# Altium integrated library Altera MAX II.IntLib: 229 symbols (part 11 of 19)
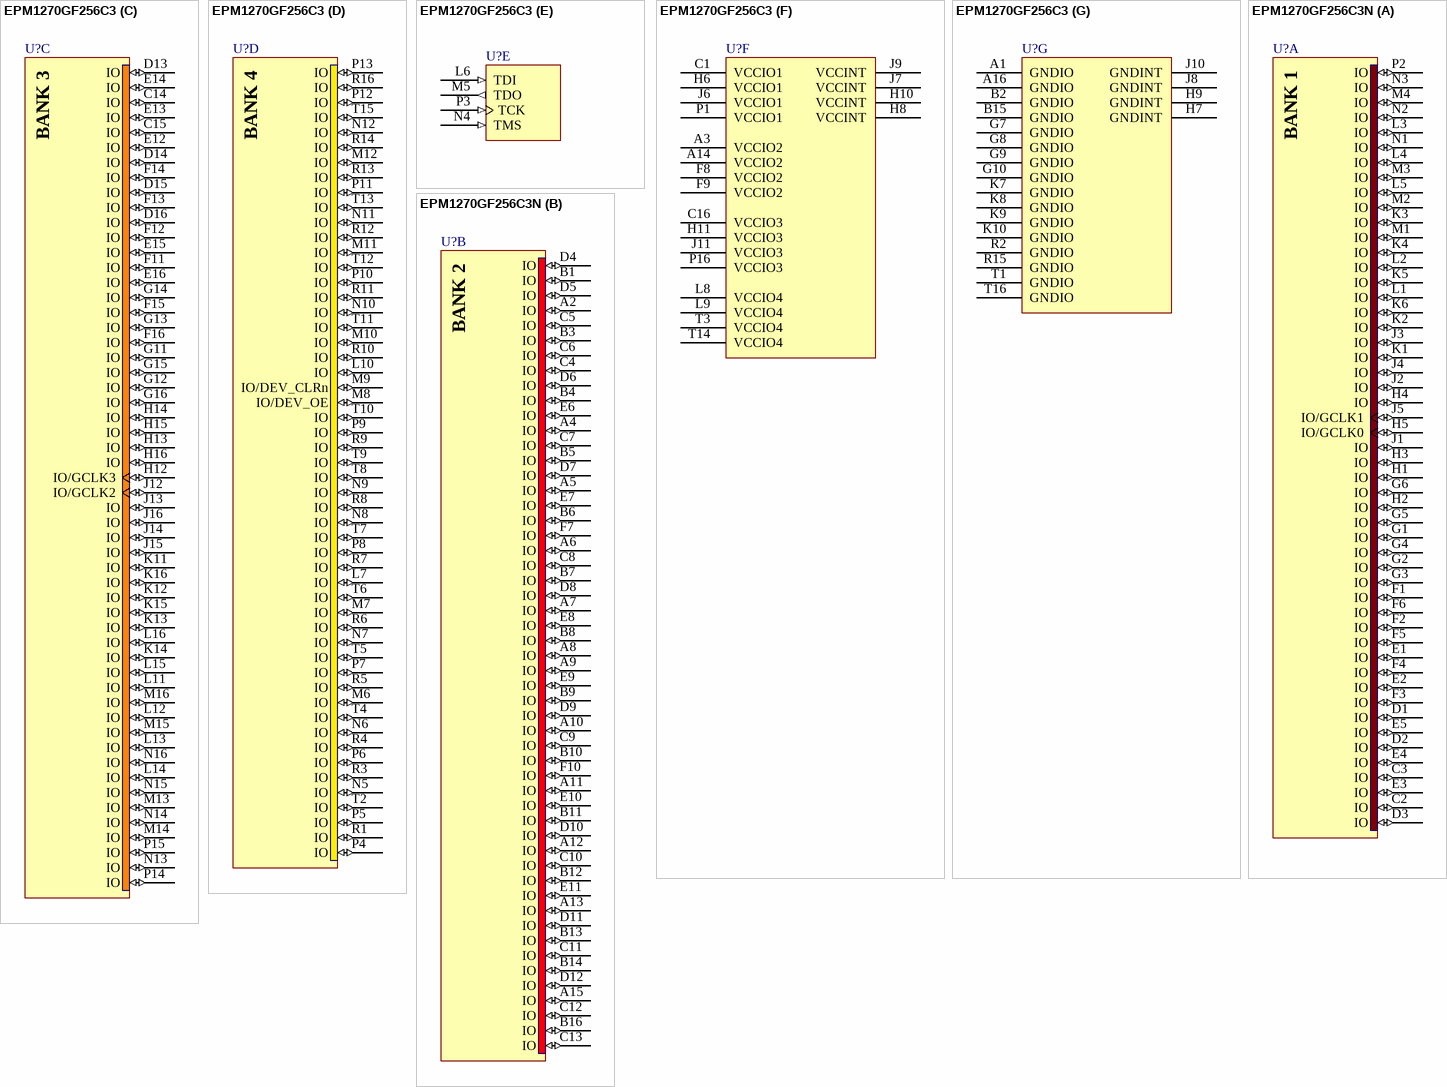
[diagram p169: symbols EPM1270GF256C3 to EPM1270GF256C3N]

## EPM1270GF256C3
designator U?
MAX II 1.8V CPLD, 212 IOs, 1,270 Logic Elements, 256-Pin FineLine BGA, Commercial Temperature, Speed Grade 3; Note: Each set of VCCIO pins can be connected to 3.3V, 2.5V, 1.8V, or 1.5V.; Note: All VCCINT pins must be connected to 1.8V.; Published: 15-Jul-2004; LatestRevisionDate: 13-Apr-2006; LatestRevisionNote: IPC-7351 Footprint Added.; DatasheetVersion: ver1.8, Jul-2006; PackageVersion: ver16.0, Dec-2009; PackageReference: FBGA256; Publisher: Altium Limited; PackageDescription: 256-Ball FineLine Ball Grid Array (FBGA256) - Option 1 - Wire Bond; Supplier 1: Digi-Key; Supplier Part Number 1: 544-1327-ND; Code_JEDEC: MS-034-AAF-1; Code_IPC: BGA100P16X16-256; ComponentLink1Description: Manufacturer Link; ComponentLink1URL: http://www.altera.com/products/devices/cpld/max2/mx2-index.jsp; ComponentLink2Description: Handbook; ComponentLink2URL: http://www.altera.com/literature/hb/max2/max2_mii5v1.pdf; ComponentLink3Description: Packaging Specification; ComponentLink3URL: http://www.altera.com/literature/ds/dspkg.pdf
footprint FBGA256 (BGA, 256-Leads, Body 17x17mm, Pitch 1mm)
3D model EPM1270-FBGA256 (256-Ball FineLine Ball Grid Array (FBGA256) - Option 1 - Wire Bond)
part A pins: C2 IO (io), C3 IO (io), D1 IO (io), D2 IO (io), D3 IO (io), E1 IO (io), E2 IO (io), E3 IO (io), E4 IO (io), E5 IO (io), F1 IO (io), F2 IO (io), F3 IO (io), F4 IO (io), F5 IO (io), F6 IO (io), G1 IO (io), G2 IO (io), G3 IO (io), G4 IO (io), G5 IO (io), G6 IO (io), H1 IO (io), H2 IO (io), H3 IO (io), H4 IO (io), H5 IO/GCLK0 (io), J1 IO (io), J2 IO (io), J3 IO (io), J4 IO (io), J5 IO/GCLK1 (io), K1 IO (io), K2 IO (io), K3 IO (io), K4 IO (io), K5 IO (io), K6 IO (io), L1 IO (io), L2 IO (io), L3 IO (io), L4 IO (io), L5 IO (io), M1 IO (io), M2 IO (io), M3 IO (io), M4 IO (io), N1 IO (io), N2 IO (io), N3 IO (io), P2 IO (io)
part B pins: A2 IO (io), A4 IO (io), A5 IO (io), A6 IO (io), A7 IO (io), A8 IO (io), A9 IO (io), A10 IO (io), A11 IO (io), A12 IO (io), A13 IO (io), A15 IO (io), B1 IO (io), B3 IO (io), B4 IO (io), B5 IO (io), B6 IO (io), B7 IO (io), B8 IO (io), B9 IO (io), B10 IO (io), B11 IO (io), B12 IO (io), B13 IO (io), B14 IO (io), B16 IO (io), C4 IO (io), C5 IO (io), C6 IO (io), C7 IO (io), C8 IO (io), C9 IO (io), C10 IO (io), C11 IO (io), C12 IO (io), C13 IO (io), D4 IO (io), D5 IO (io), D6 IO (io), D7 IO (io), D8 IO (io), D9 IO (io), D10 IO (io), D11 IO (io), D12 IO (io), E6 IO (io), E7 IO (io), E8 IO (io), E9 IO (io), E10 IO (io), E11 IO (io), F7 IO (io), F10 IO (io)
part C pins: C14 IO (io), C15 IO (io), D13 IO (io), D14 IO (io), D15 IO (io), D16 IO (io), E12 IO (io), E13 IO (io), E14 IO (io), E15 IO (io), E16 IO (io), F11 IO (io), F12 IO (io), F13 IO (io), F14 IO (io), F15 IO (io), F16 IO (io), G11 IO (io), G12 IO (io), G13 IO (io), G14 IO (io), G15 IO (io), G16 IO (io), H12 IO/GCLK3 (io), H13 IO (io), H14 IO (io), H15 IO (io), H16 IO (io), J12 IO/GCLK2 (io), J13 IO (io), J14 IO (io), J15 IO (io), J16 IO (io), K11 IO (io), K12 IO (io), K13 IO (io), K14 IO (io), K15 IO (io), K16 IO (io), L11 IO (io), L12 IO (io), L13 IO (io), L14 IO (io), L15 IO (io), L16 IO (io), M13 IO (io), M14 IO (io), M15 IO (io), M16 IO (io), N13 IO (io), N14 IO (io), N15 IO (io), N16 IO (io), P14 IO (io), P15 IO (io)
part D pins: L7 IO (io), L10 IO (io), M6 IO (io), M7 IO (io), M8 IO/DEV_OE (io), M9 IO/DEV_CLRn (io), M10 IO (io), M11 IO (io), M12 IO (io), N5 IO (io), N6 IO (io), N7 IO (io), N8 IO (io), N9 IO (io), N10 IO (io), N11 IO (io), N12 IO (io), P4 IO (io), P5 IO (io), P6 IO (io), P7 IO (io), P8 IO (io), P9 IO (io), P10 IO (io), P11 IO (io), P12 IO (io), P13 IO (io), R1 IO (io), R3 IO (io), R4 IO (io), R5 IO (io), R6 IO (io), R7 IO (io), R8 IO (io), R9 IO (io), R10 IO (io), R11 IO (io), R12 IO (io), R13 IO (io), R14 IO (io), R16 IO (io), T2 IO (io), T4 IO (io), T5 IO (io), T6 IO (io), T7 IO (io), T8 IO (io), T9 IO (io), T10 IO (io), T11 IO (io), T12 IO (io), T13 IO (io), T15 IO (io)
part E pins: L6 TDI (in), M5 TDO (out), N4 TMS (in), P3 TCK (in)
part F pins: A3 VCCIO2 (power), A14 VCCIO2 (power), C1 VCCIO1 (power), C16 VCCIO3 (power), F8 VCCIO2 (power), F9 VCCIO2 (power), H6 VCCIO1 (power), H8 VCCINT (power), H10 VCCINT (power), H11 VCCIO3 (power), J6 VCCIO1 (power), J7 VCCINT (power), J9 VCCINT (power), J11 VCCIO3 (power), L8 VCCIO4 (power), L9 VCCIO4 (power), P1 VCCIO1 (power), P16 VCCIO3 (power), T3 VCCIO4 (power), T14 VCCIO4 (power)
part G pins: A1 GNDIO (power), A16 GNDIO (power), B2 GNDIO (power), B15 GNDIO (power), G7 GNDIO (power), G8 GNDIO (power), G9 GNDIO (power), G10 GNDIO (power), H7 GNDINT (power), H9 GNDINT (power), J8 GNDINT (power), J10 GNDINT (power), K7 GNDIO (power), K8 GNDIO (power), K9 GNDIO (power), K10 GNDIO (power), R2 GNDIO (power), R15 GNDIO (power), T1 GNDIO (power), T16 GNDIO (power)
part A text: BANK 1
part B text: BANK 2
part C text: BANK 3
part D text: BANK 4

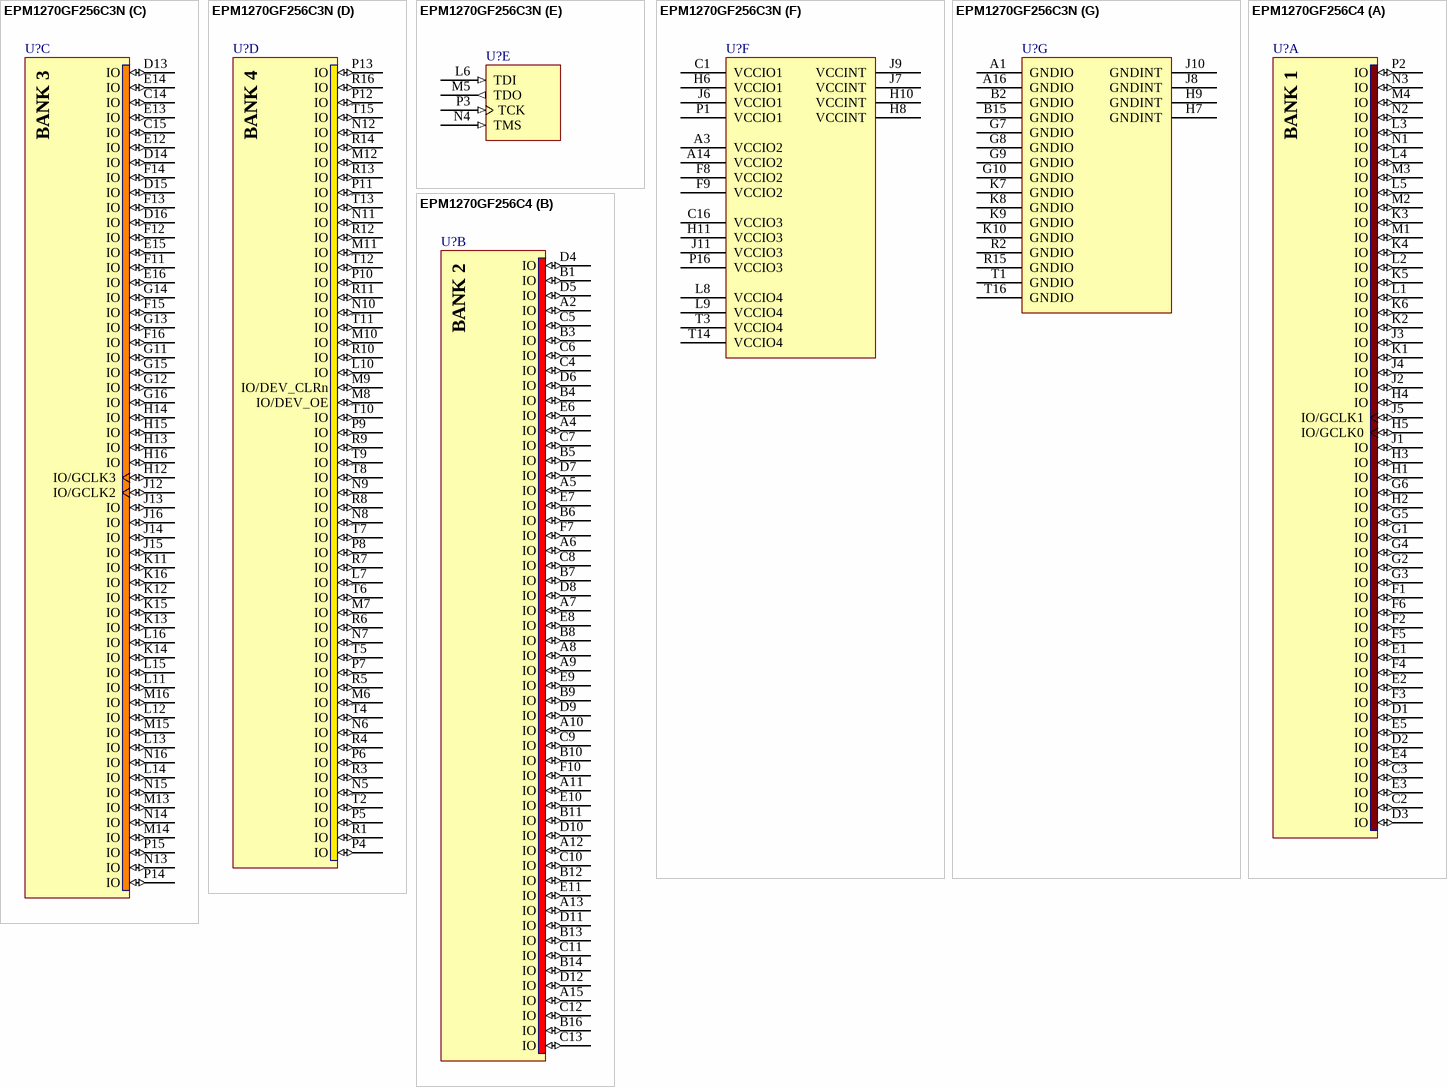
[diagram p83: symbols EPM1270GF256C3N to EPM1270GF256C4]

## EPM1270GF256C3N
designator U?
MAX II 1.8V CPLD, 212 IOs, 1,270 Logic Elements, 256-Pin FineLine BGA, Commercial Temperature, Speed Grade 3, Pb-Free; Note: Each set of VCCIO pins can be connected to 3.3V, 2.5V, 1.8V, or 1.5V.; Note: All VCCINT pins must be connected to 1.8V.; Published: 4-Mar-2005; LatestRevisionDate: 13-Apr-2006; LatestRevisionNote: IPC-7351 Footprint Added.; DatasheetVersion: ver1.8, Jul-2006; PackageVersion: ver16.0, Dec-2009; PackageReference: FBGA256; Publisher: Altium Limited; PackageDescription: 256-Ball FineLine Ball Grid Array (FBGA256) - Option 1 - Wire Bond; Supplier 1: Digi-Key; Supplier Part Number 1: 544-1382-ND; Code_JEDEC: MS-034-AAF-1; Code_IPC: BGA100P16X16-256; ComponentLink1Description: Manufacturer Link; ComponentLink1URL: http://www.altera.com/products/devices/cpld/max2/mx2-index.jsp; ComponentLink2Description: Handbook; ComponentLink2URL: http://www.altera.com/literature/hb/max2/max2_mii5v1.pdf; ComponentLink3Description: Packaging Specification; ComponentLink3URL: http://www.altera.com/literature/ds/dspkg.pdf
footprint FBGA256 (BGA, 256-Leads, Body 17x17mm, Pitch 1mm)
3D model EPM1270-FBGA256 (256-Ball FineLine Ball Grid Array (FBGA256) - Option 1 - Wire Bond)
part A pins: C2 IO (io), C3 IO (io), D1 IO (io), D2 IO (io), D3 IO (io), E1 IO (io), E2 IO (io), E3 IO (io), E4 IO (io), E5 IO (io), F1 IO (io), F2 IO (io), F3 IO (io), F4 IO (io), F5 IO (io), F6 IO (io), G1 IO (io), G2 IO (io), G3 IO (io), G4 IO (io), G5 IO (io), G6 IO (io), H1 IO (io), H2 IO (io), H3 IO (io), H4 IO (io), H5 IO/GCLK0 (io), J1 IO (io), J2 IO (io), J3 IO (io), J4 IO (io), J5 IO/GCLK1 (io), K1 IO (io), K2 IO (io), K3 IO (io), K4 IO (io), K5 IO (io), K6 IO (io), L1 IO (io), L2 IO (io), L3 IO (io), L4 IO (io), L5 IO (io), M1 IO (io), M2 IO (io), M3 IO (io), M4 IO (io), N1 IO (io), N2 IO (io), N3 IO (io), P2 IO (io)
part B pins: A2 IO (io), A4 IO (io), A5 IO (io), A6 IO (io), A7 IO (io), A8 IO (io), A9 IO (io), A10 IO (io), A11 IO (io), A12 IO (io), A13 IO (io), A15 IO (io), B1 IO (io), B3 IO (io), B4 IO (io), B5 IO (io), B6 IO (io), B7 IO (io), B8 IO (io), B9 IO (io), B10 IO (io), B11 IO (io), B12 IO (io), B13 IO (io), B14 IO (io), B16 IO (io), C4 IO (io), C5 IO (io), C6 IO (io), C7 IO (io), C8 IO (io), C9 IO (io), C10 IO (io), C11 IO (io), C12 IO (io), C13 IO (io), D4 IO (io), D5 IO (io), D6 IO (io), D7 IO (io), D8 IO (io), D9 IO (io), D10 IO (io), D11 IO (io), D12 IO (io), E6 IO (io), E7 IO (io), E8 IO (io), E9 IO (io), E10 IO (io), E11 IO (io), F7 IO (io), F10 IO (io)
part C pins: C14 IO (io), C15 IO (io), D13 IO (io), D14 IO (io), D15 IO (io), D16 IO (io), E12 IO (io), E13 IO (io), E14 IO (io), E15 IO (io), E16 IO (io), F11 IO (io), F12 IO (io), F13 IO (io), F14 IO (io), F15 IO (io), F16 IO (io), G11 IO (io), G12 IO (io), G13 IO (io), G14 IO (io), G15 IO (io), G16 IO (io), H12 IO/GCLK3 (io), H13 IO (io), H14 IO (io), H15 IO (io), H16 IO (io), J12 IO/GCLK2 (io), J13 IO (io), J14 IO (io), J15 IO (io), J16 IO (io), K11 IO (io), K12 IO (io), K13 IO (io), K14 IO (io), K15 IO (io), K16 IO (io), L11 IO (io), L12 IO (io), L13 IO (io), L14 IO (io), L15 IO (io), L16 IO (io), M13 IO (io), M14 IO (io), M15 IO (io), M16 IO (io), N13 IO (io), N14 IO (io), N15 IO (io), N16 IO (io), P14 IO (io), P15 IO (io)
part D pins: L7 IO (io), L10 IO (io), M6 IO (io), M7 IO (io), M8 IO/DEV_OE (io), M9 IO/DEV_CLRn (io), M10 IO (io), M11 IO (io), M12 IO (io), N5 IO (io), N6 IO (io), N7 IO (io), N8 IO (io), N9 IO (io), N10 IO (io), N11 IO (io), N12 IO (io), P4 IO (io), P5 IO (io), P6 IO (io), P7 IO (io), P8 IO (io), P9 IO (io), P10 IO (io), P11 IO (io), P12 IO (io), P13 IO (io), R1 IO (io), R3 IO (io), R4 IO (io), R5 IO (io), R6 IO (io), R7 IO (io), R8 IO (io), R9 IO (io), R10 IO (io), R11 IO (io), R12 IO (io), R13 IO (io), R14 IO (io), R16 IO (io), T2 IO (io), T4 IO (io), T5 IO (io), T6 IO (io), T7 IO (io), T8 IO (io), T9 IO (io), T10 IO (io), T11 IO (io), T12 IO (io), T13 IO (io), T15 IO (io)
part E pins: L6 TDI (in), M5 TDO (out), N4 TMS (in), P3 TCK (in)
part F pins: A3 VCCIO2 (power), A14 VCCIO2 (power), C1 VCCIO1 (power), C16 VCCIO3 (power), F8 VCCIO2 (power), F9 VCCIO2 (power), H6 VCCIO1 (power), H8 VCCINT (power), H10 VCCINT (power), H11 VCCIO3 (power), J6 VCCIO1 (power), J7 VCCINT (power), J9 VCCINT (power), J11 VCCIO3 (power), L8 VCCIO4 (power), L9 VCCIO4 (power), P1 VCCIO1 (power), P16 VCCIO3 (power), T3 VCCIO4 (power), T14 VCCIO4 (power)
part G pins: A1 GNDIO (power), A16 GNDIO (power), B2 GNDIO (power), B15 GNDIO (power), G7 GNDIO (power), G8 GNDIO (power), G9 GNDIO (power), G10 GNDIO (power), H7 GNDINT (power), H9 GNDINT (power), J8 GNDINT (power), J10 GNDINT (power), K7 GNDIO (power), K8 GNDIO (power), K9 GNDIO (power), K10 GNDIO (power), R2 GNDIO (power), R15 GNDIO (power), T1 GNDIO (power), T16 GNDIO (power)
part A text: BANK 1
part B text: BANK 2
part C text: BANK 3
part D text: BANK 4

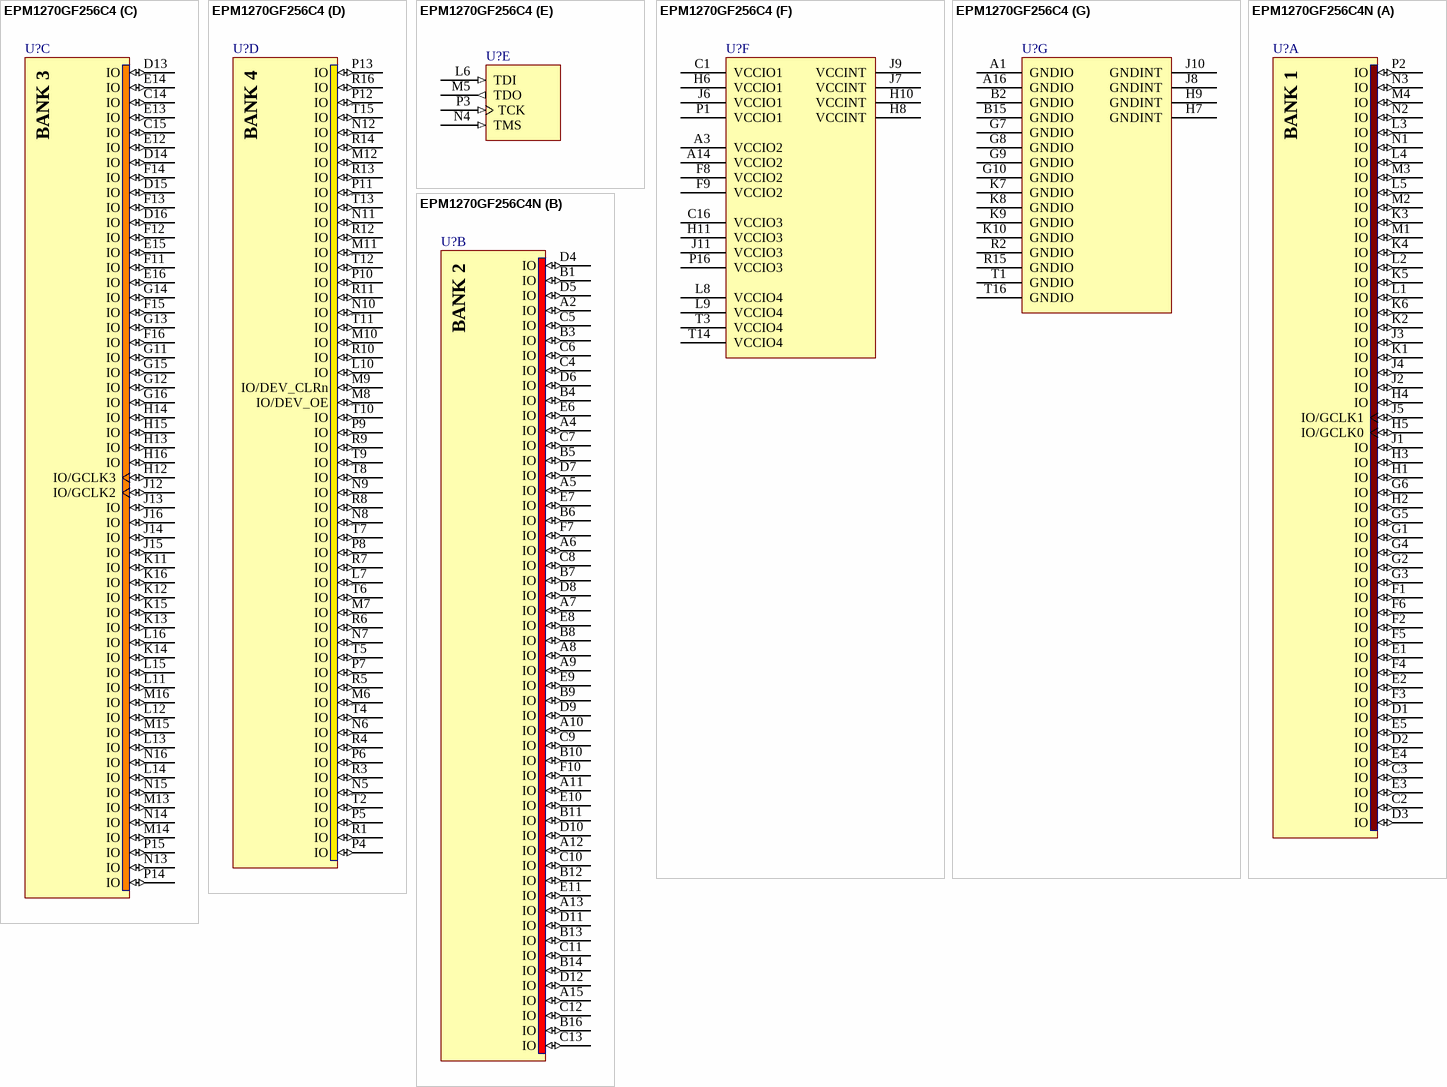
[diagram p84: symbols EPM1270GF256C4 to EPM1270GF256C4N]

## EPM1270GF256C4
designator U?
MAX II 1.8V CPLD, 212 IOs, 1,270 Logic Elements, 256-Pin FineLine BGA, Commercial Temperature, Speed Grade 4; Note: Each set of VCCIO pins can be connected to 3.3V, 2.5V, 1.8V, or 1.5V.; Note: All VCCINT pins must be connected to 1.8V.; Published: 15-Jul-2004; LatestRevisionDate: 13-Apr-2006; LatestRevisionNote: IPC-7351 Footprint Added.; DatasheetVersion: ver1.8, Jul-2006; PackageVersion: ver16.0, Dec-2009; PackageReference: FBGA256; Publisher: Altium Limited; PackageDescription: 256-Ball FineLine Ball Grid Array (FBGA256) - Option 1 - Wire Bond; Supplier 1: Digi-Key; Supplier Part Number 1: 544-1328-ND; Code_JEDEC: MS-034-AAF-1; Code_IPC: BGA100P16X16-256; ComponentLink1Description: Manufacturer Link; ComponentLink1URL: http://www.altera.com/products/devices/cpld/max2/mx2-index.jsp; ComponentLink2Description: Handbook; ComponentLink2URL: http://www.altera.com/literature/hb/max2/max2_mii5v1.pdf; ComponentLink3Description: Packaging Specification; ComponentLink3URL: http://www.altera.com/literature/ds/dspkg.pdf
footprint FBGA256 (BGA, 256-Leads, Body 17x17mm, Pitch 1mm)
3D model EPM1270-FBGA256 (256-Ball FineLine Ball Grid Array (FBGA256) - Option 1 - Wire Bond)
part A pins: C2 IO (io), C3 IO (io), D1 IO (io), D2 IO (io), D3 IO (io), E1 IO (io), E2 IO (io), E3 IO (io), E4 IO (io), E5 IO (io), F1 IO (io), F2 IO (io), F3 IO (io), F4 IO (io), F5 IO (io), F6 IO (io), G1 IO (io), G2 IO (io), G3 IO (io), G4 IO (io), G5 IO (io), G6 IO (io), H1 IO (io), H2 IO (io), H3 IO (io), H4 IO (io), H5 IO/GCLK0 (io), J1 IO (io), J2 IO (io), J3 IO (io), J4 IO (io), J5 IO/GCLK1 (io), K1 IO (io), K2 IO (io), K3 IO (io), K4 IO (io), K5 IO (io), K6 IO (io), L1 IO (io), L2 IO (io), L3 IO (io), L4 IO (io), L5 IO (io), M1 IO (io), M2 IO (io), M3 IO (io), M4 IO (io), N1 IO (io), N2 IO (io), N3 IO (io), P2 IO (io)
part B pins: A2 IO (io), A4 IO (io), A5 IO (io), A6 IO (io), A7 IO (io), A8 IO (io), A9 IO (io), A10 IO (io), A11 IO (io), A12 IO (io), A13 IO (io), A15 IO (io), B1 IO (io), B3 IO (io), B4 IO (io), B5 IO (io), B6 IO (io), B7 IO (io), B8 IO (io), B9 IO (io), B10 IO (io), B11 IO (io), B12 IO (io), B13 IO (io), B14 IO (io), B16 IO (io), C4 IO (io), C5 IO (io), C6 IO (io), C7 IO (io), C8 IO (io), C9 IO (io), C10 IO (io), C11 IO (io), C12 IO (io), C13 IO (io), D4 IO (io), D5 IO (io), D6 IO (io), D7 IO (io), D8 IO (io), D9 IO (io), D10 IO (io), D11 IO (io), D12 IO (io), E6 IO (io), E7 IO (io), E8 IO (io), E9 IO (io), E10 IO (io), E11 IO (io), F7 IO (io), F10 IO (io)
part C pins: C14 IO (io), C15 IO (io), D13 IO (io), D14 IO (io), D15 IO (io), D16 IO (io), E12 IO (io), E13 IO (io), E14 IO (io), E15 IO (io), E16 IO (io), F11 IO (io), F12 IO (io), F13 IO (io), F14 IO (io), F15 IO (io), F16 IO (io), G11 IO (io), G12 IO (io), G13 IO (io), G14 IO (io), G15 IO (io), G16 IO (io), H12 IO/GCLK3 (io), H13 IO (io), H14 IO (io), H15 IO (io), H16 IO (io), J12 IO/GCLK2 (io), J13 IO (io), J14 IO (io), J15 IO (io), J16 IO (io), K11 IO (io), K12 IO (io), K13 IO (io), K14 IO (io), K15 IO (io), K16 IO (io), L11 IO (io), L12 IO (io), L13 IO (io), L14 IO (io), L15 IO (io), L16 IO (io), M13 IO (io), M14 IO (io), M15 IO (io), M16 IO (io), N13 IO (io), N14 IO (io), N15 IO (io), N16 IO (io), P14 IO (io), P15 IO (io)
part D pins: L7 IO (io), L10 IO (io), M6 IO (io), M7 IO (io), M8 IO/DEV_OE (io), M9 IO/DEV_CLRn (io), M10 IO (io), M11 IO (io), M12 IO (io), N5 IO (io), N6 IO (io), N7 IO (io), N8 IO (io), N9 IO (io), N10 IO (io), N11 IO (io), N12 IO (io), P4 IO (io), P5 IO (io), P6 IO (io), P7 IO (io), P8 IO (io), P9 IO (io), P10 IO (io), P11 IO (io), P12 IO (io), P13 IO (io), R1 IO (io), R3 IO (io), R4 IO (io), R5 IO (io), R6 IO (io), R7 IO (io), R8 IO (io), R9 IO (io), R10 IO (io), R11 IO (io), R12 IO (io), R13 IO (io), R14 IO (io), R16 IO (io), T2 IO (io), T4 IO (io), T5 IO (io), T6 IO (io), T7 IO (io), T8 IO (io), T9 IO (io), T10 IO (io), T11 IO (io), T12 IO (io), T13 IO (io), T15 IO (io)
part E pins: L6 TDI (in), M5 TDO (out), N4 TMS (in), P3 TCK (in)
part F pins: A3 VCCIO2 (power), A14 VCCIO2 (power), C1 VCCIO1 (power), C16 VCCIO3 (power), F8 VCCIO2 (power), F9 VCCIO2 (power), H6 VCCIO1 (power), H8 VCCINT (power), H10 VCCINT (power), H11 VCCIO3 (power), J6 VCCIO1 (power), J7 VCCINT (power), J9 VCCINT (power), J11 VCCIO3 (power), L8 VCCIO4 (power), L9 VCCIO4 (power), P1 VCCIO1 (power), P16 VCCIO3 (power), T3 VCCIO4 (power), T14 VCCIO4 (power)
part G pins: A1 GNDIO (power), A16 GNDIO (power), B2 GNDIO (power), B15 GNDIO (power), G7 GNDIO (power), G8 GNDIO (power), G9 GNDIO (power), G10 GNDIO (power), H7 GNDINT (power), H9 GNDINT (power), J8 GNDINT (power), J10 GNDINT (power), K7 GNDIO (power), K8 GNDIO (power), K9 GNDIO (power), K10 GNDIO (power), R2 GNDIO (power), R15 GNDIO (power), T1 GNDIO (power), T16 GNDIO (power)
part A text: BANK 1
part B text: BANK 2
part C text: BANK 3
part D text: BANK 4

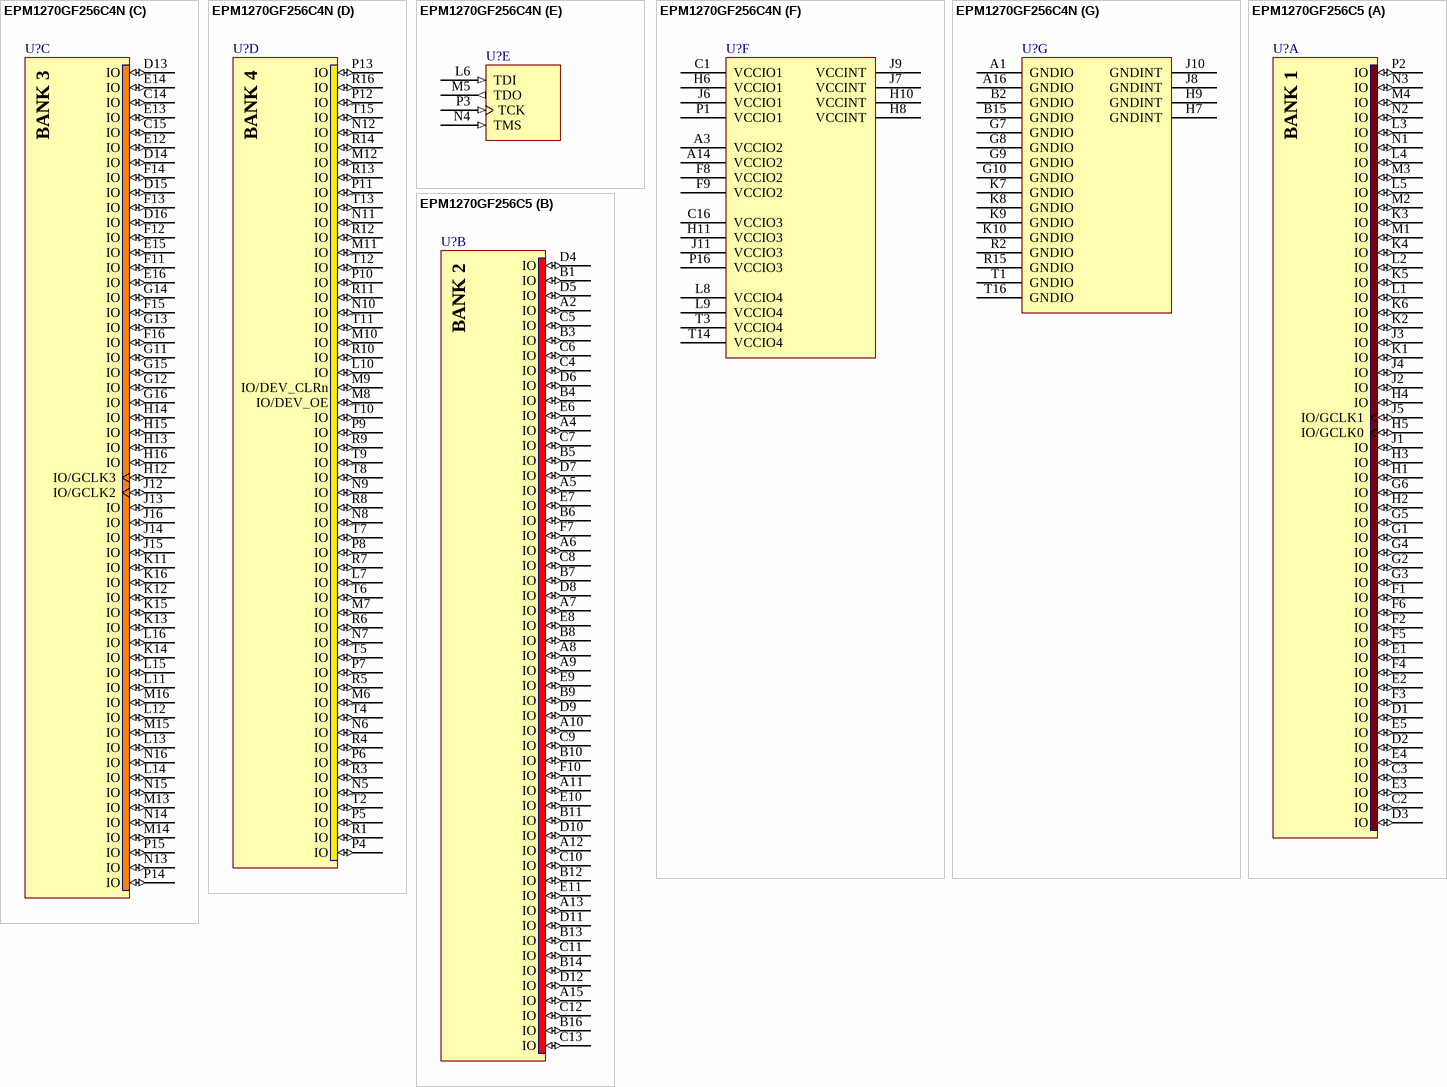
[diagram p85: symbols EPM1270GF256C4N to EPM1270GF256C5]

## EPM1270GF256C4N
designator U?
MAX II 1.8V CPLD, 212 IOs, 1,270 Logic Elements, 256-Pin FineLine BGA, Commercial Temperature, Speed Grade 4, Pb-Free; Note: Each set of VCCIO pins can be connected to 3.3V, 2.5V, 1.8V, or 1.5V.; Note: All VCCINT pins must be connected to 1.8V.; Published: 4-Mar-2005; LatestRevisionDate: 13-Apr-2006; LatestRevisionNote: IPC-7351 Footprint Added.; DatasheetVersion: ver1.8, Jul-2006; PackageVersion: ver16.0, Dec-2009; PackageReference: FBGA256; Publisher: Altium Limited; PackageDescription: 256-Ball FineLine Ball Grid Array (FBGA256) - Option 1 - Wire Bond; Supplier 1: Digi-Key; Supplier Part Number 1: 544-1383-ND; Code_JEDEC: MS-034-AAF-1; Code_IPC: BGA100P16X16-256; ComponentLink1Description: Manufacturer Link; ComponentLink1URL: http://www.altera.com/products/devices/cpld/max2/mx2-index.jsp; ComponentLink2Description: Handbook; ComponentLink2URL: http://www.altera.com/literature/hb/max2/max2_mii5v1.pdf; ComponentLink3Description: Packaging Specification; ComponentLink3URL: http://www.altera.com/literature/ds/dspkg.pdf
footprint FBGA256 (BGA, 256-Leads, Body 17x17mm, Pitch 1mm)
3D model EPM1270-FBGA256 (256-Ball FineLine Ball Grid Array (FBGA256) - Option 1 - Wire Bond)
part A pins: C2 IO (io), C3 IO (io), D1 IO (io), D2 IO (io), D3 IO (io), E1 IO (io), E2 IO (io), E3 IO (io), E4 IO (io), E5 IO (io), F1 IO (io), F2 IO (io), F3 IO (io), F4 IO (io), F5 IO (io), F6 IO (io), G1 IO (io), G2 IO (io), G3 IO (io), G4 IO (io), G5 IO (io), G6 IO (io), H1 IO (io), H2 IO (io), H3 IO (io), H4 IO (io), H5 IO/GCLK0 (io), J1 IO (io), J2 IO (io), J3 IO (io), J4 IO (io), J5 IO/GCLK1 (io), K1 IO (io), K2 IO (io), K3 IO (io), K4 IO (io), K5 IO (io), K6 IO (io), L1 IO (io), L2 IO (io), L3 IO (io), L4 IO (io), L5 IO (io), M1 IO (io), M2 IO (io), M3 IO (io), M4 IO (io), N1 IO (io), N2 IO (io), N3 IO (io), P2 IO (io)
part B pins: A2 IO (io), A4 IO (io), A5 IO (io), A6 IO (io), A7 IO (io), A8 IO (io), A9 IO (io), A10 IO (io), A11 IO (io), A12 IO (io), A13 IO (io), A15 IO (io), B1 IO (io), B3 IO (io), B4 IO (io), B5 IO (io), B6 IO (io), B7 IO (io), B8 IO (io), B9 IO (io), B10 IO (io), B11 IO (io), B12 IO (io), B13 IO (io), B14 IO (io), B16 IO (io), C4 IO (io), C5 IO (io), C6 IO (io), C7 IO (io), C8 IO (io), C9 IO (io), C10 IO (io), C11 IO (io), C12 IO (io), C13 IO (io), D4 IO (io), D5 IO (io), D6 IO (io), D7 IO (io), D8 IO (io), D9 IO (io), D10 IO (io), D11 IO (io), D12 IO (io), E6 IO (io), E7 IO (io), E8 IO (io), E9 IO (io), E10 IO (io), E11 IO (io), F7 IO (io), F10 IO (io)
part C pins: C14 IO (io), C15 IO (io), D13 IO (io), D14 IO (io), D15 IO (io), D16 IO (io), E12 IO (io), E13 IO (io), E14 IO (io), E15 IO (io), E16 IO (io), F11 IO (io), F12 IO (io), F13 IO (io), F14 IO (io), F15 IO (io), F16 IO (io), G11 IO (io), G12 IO (io), G13 IO (io), G14 IO (io), G15 IO (io), G16 IO (io), H12 IO/GCLK3 (io), H13 IO (io), H14 IO (io), H15 IO (io), H16 IO (io), J12 IO/GCLK2 (io), J13 IO (io), J14 IO (io), J15 IO (io), J16 IO (io), K11 IO (io), K12 IO (io), K13 IO (io), K14 IO (io), K15 IO (io), K16 IO (io), L11 IO (io), L12 IO (io), L13 IO (io), L14 IO (io), L15 IO (io), L16 IO (io), M13 IO (io), M14 IO (io), M15 IO (io), M16 IO (io), N13 IO (io), N14 IO (io), N15 IO (io), N16 IO (io), P14 IO (io), P15 IO (io)
part D pins: L7 IO (io), L10 IO (io), M6 IO (io), M7 IO (io), M8 IO/DEV_OE (io), M9 IO/DEV_CLRn (io), M10 IO (io), M11 IO (io), M12 IO (io), N5 IO (io), N6 IO (io), N7 IO (io), N8 IO (io), N9 IO (io), N10 IO (io), N11 IO (io), N12 IO (io), P4 IO (io), P5 IO (io), P6 IO (io), P7 IO (io), P8 IO (io), P9 IO (io), P10 IO (io), P11 IO (io), P12 IO (io), P13 IO (io), R1 IO (io), R3 IO (io), R4 IO (io), R5 IO (io), R6 IO (io), R7 IO (io), R8 IO (io), R9 IO (io), R10 IO (io), R11 IO (io), R12 IO (io), R13 IO (io), R14 IO (io), R16 IO (io), T2 IO (io), T4 IO (io), T5 IO (io), T6 IO (io), T7 IO (io), T8 IO (io), T9 IO (io), T10 IO (io), T11 IO (io), T12 IO (io), T13 IO (io), T15 IO (io)
part E pins: L6 TDI (in), M5 TDO (out), N4 TMS (in), P3 TCK (in)
part F pins: A3 VCCIO2 (power), A14 VCCIO2 (power), C1 VCCIO1 (power), C16 VCCIO3 (power), F8 VCCIO2 (power), F9 VCCIO2 (power), H6 VCCIO1 (power), H8 VCCINT (power), H10 VCCINT (power), H11 VCCIO3 (power), J6 VCCIO1 (power), J7 VCCINT (power), J9 VCCINT (power), J11 VCCIO3 (power), L8 VCCIO4 (power), L9 VCCIO4 (power), P1 VCCIO1 (power), P16 VCCIO3 (power), T3 VCCIO4 (power), T14 VCCIO4 (power)
part G pins: A1 GNDIO (power), A16 GNDIO (power), B2 GNDIO (power), B15 GNDIO (power), G7 GNDIO (power), G8 GNDIO (power), G9 GNDIO (power), G10 GNDIO (power), H7 GNDINT (power), H9 GNDINT (power), J8 GNDINT (power), J10 GNDINT (power), K7 GNDIO (power), K8 GNDIO (power), K9 GNDIO (power), K10 GNDIO (power), R2 GNDIO (power), R15 GNDIO (power), T1 GNDIO (power), T16 GNDIO (power)
part A text: BANK 1
part B text: BANK 2
part C text: BANK 3
part D text: BANK 4

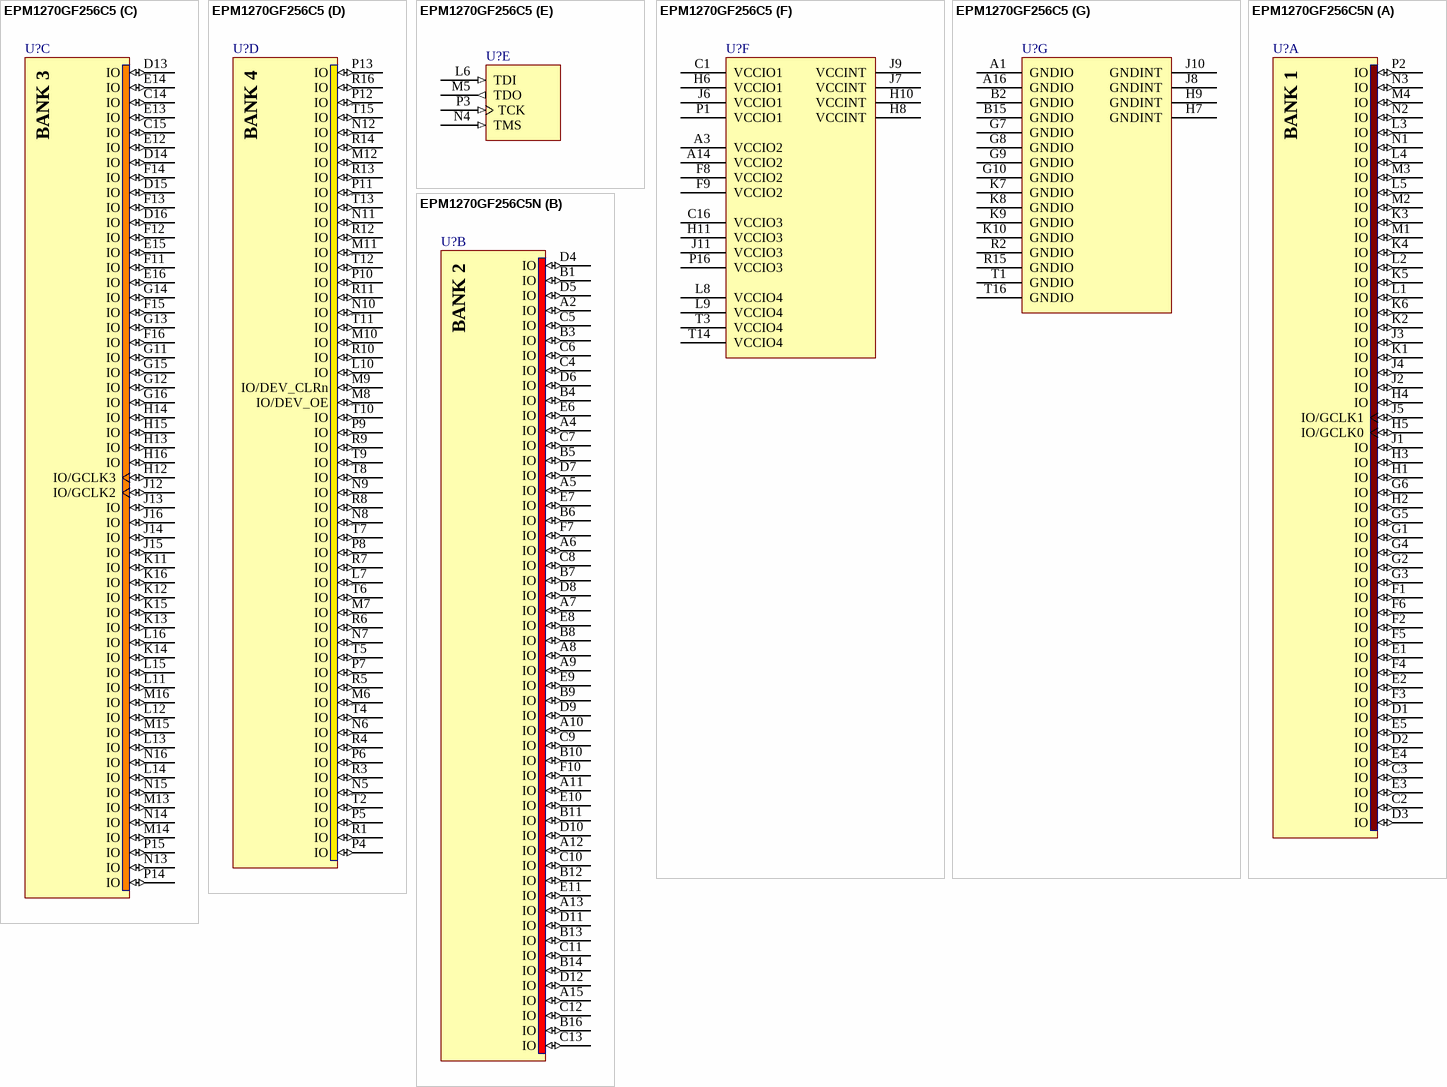
[diagram p86: symbols EPM1270GF256C5 to EPM1270GF256C5N]

## EPM1270GF256C5
designator U?
MAX II 1.8V CPLD, 212 IOs, 1,270 Logic Elements, 256-Pin FineLine BGA, Commercial Temperature, Speed Grade 5; Note: Each set of VCCIO pins can be connected to 3.3V, 2.5V, 1.8V, or 1.5V.; Note: All VCCINT pins must be connected to 1.8V.; Published: 15-Jul-2004; LatestRevisionDate: 13-Apr-2006; LatestRevisionNote: IPC-7351 Footprint Added.; DatasheetVersion: ver1.8, Jul-2006; PackageVersion: ver16.0, Dec-2009; PackageReference: FBGA256; Publisher: Altium Limited; PackageDescription: 256-Ball FineLine Ball Grid Array (FBGA256) - Option 1 - Wire Bond; Supplier 1: Digi-Key; Supplier Part Number 1: 544-1329-ND; Code_JEDEC: MS-034-AAF-1; Code_IPC: BGA100P16X16-256; ComponentLink1Description: Manufacturer Link; ComponentLink1URL: http://www.altera.com/products/devices/cpld/max2/mx2-index.jsp; ComponentLink2Description: Handbook; ComponentLink2URL: http://www.altera.com/literature/hb/max2/max2_mii5v1.pdf; ComponentLink3Description: Packaging Specification; ComponentLink3URL: http://www.altera.com/literature/ds/dspkg.pdf
footprint FBGA256 (BGA, 256-Leads, Body 17x17mm, Pitch 1mm)
3D model EPM1270-FBGA256 (256-Ball FineLine Ball Grid Array (FBGA256) - Option 1 - Wire Bond)
part A pins: C2 IO (io), C3 IO (io), D1 IO (io), D2 IO (io), D3 IO (io), E1 IO (io), E2 IO (io), E3 IO (io), E4 IO (io), E5 IO (io), F1 IO (io), F2 IO (io), F3 IO (io), F4 IO (io), F5 IO (io), F6 IO (io), G1 IO (io), G2 IO (io), G3 IO (io), G4 IO (io), G5 IO (io), G6 IO (io), H1 IO (io), H2 IO (io), H3 IO (io), H4 IO (io), H5 IO/GCLK0 (io), J1 IO (io), J2 IO (io), J3 IO (io), J4 IO (io), J5 IO/GCLK1 (io), K1 IO (io), K2 IO (io), K3 IO (io), K4 IO (io), K5 IO (io), K6 IO (io), L1 IO (io), L2 IO (io), L3 IO (io), L4 IO (io), L5 IO (io), M1 IO (io), M2 IO (io), M3 IO (io), M4 IO (io), N1 IO (io), N2 IO (io), N3 IO (io), P2 IO (io)
part B pins: A2 IO (io), A4 IO (io), A5 IO (io), A6 IO (io), A7 IO (io), A8 IO (io), A9 IO (io), A10 IO (io), A11 IO (io), A12 IO (io), A13 IO (io), A15 IO (io), B1 IO (io), B3 IO (io), B4 IO (io), B5 IO (io), B6 IO (io), B7 IO (io), B8 IO (io), B9 IO (io), B10 IO (io), B11 IO (io), B12 IO (io), B13 IO (io), B14 IO (io), B16 IO (io), C4 IO (io), C5 IO (io), C6 IO (io), C7 IO (io), C8 IO (io), C9 IO (io), C10 IO (io), C11 IO (io), C12 IO (io), C13 IO (io), D4 IO (io), D5 IO (io), D6 IO (io), D7 IO (io), D8 IO (io), D9 IO (io), D10 IO (io), D11 IO (io), D12 IO (io), E6 IO (io), E7 IO (io), E8 IO (io), E9 IO (io), E10 IO (io), E11 IO (io), F7 IO (io), F10 IO (io)
part C pins: C14 IO (io), C15 IO (io), D13 IO (io), D14 IO (io), D15 IO (io), D16 IO (io), E12 IO (io), E13 IO (io), E14 IO (io), E15 IO (io), E16 IO (io), F11 IO (io), F12 IO (io), F13 IO (io), F14 IO (io), F15 IO (io), F16 IO (io), G11 IO (io), G12 IO (io), G13 IO (io), G14 IO (io), G15 IO (io), G16 IO (io), H12 IO/GCLK3 (io), H13 IO (io), H14 IO (io), H15 IO (io), H16 IO (io), J12 IO/GCLK2 (io), J13 IO (io), J14 IO (io), J15 IO (io), J16 IO (io), K11 IO (io), K12 IO (io), K13 IO (io), K14 IO (io), K15 IO (io), K16 IO (io), L11 IO (io), L12 IO (io), L13 IO (io), L14 IO (io), L15 IO (io), L16 IO (io), M13 IO (io), M14 IO (io), M15 IO (io), M16 IO (io), N13 IO (io), N14 IO (io), N15 IO (io), N16 IO (io), P14 IO (io), P15 IO (io)
part D pins: L7 IO (io), L10 IO (io), M6 IO (io), M7 IO (io), M8 IO/DEV_OE (io), M9 IO/DEV_CLRn (io), M10 IO (io), M11 IO (io), M12 IO (io), N5 IO (io), N6 IO (io), N7 IO (io), N8 IO (io), N9 IO (io), N10 IO (io), N11 IO (io), N12 IO (io), P4 IO (io), P5 IO (io), P6 IO (io), P7 IO (io), P8 IO (io), P9 IO (io), P10 IO (io), P11 IO (io), P12 IO (io), P13 IO (io), R1 IO (io), R3 IO (io), R4 IO (io), R5 IO (io), R6 IO (io), R7 IO (io), R8 IO (io), R9 IO (io), R10 IO (io), R11 IO (io), R12 IO (io), R13 IO (io), R14 IO (io), R16 IO (io), T2 IO (io), T4 IO (io), T5 IO (io), T6 IO (io), T7 IO (io), T8 IO (io), T9 IO (io), T10 IO (io), T11 IO (io), T12 IO (io), T13 IO (io), T15 IO (io)
part E pins: L6 TDI (in), M5 TDO (out), N4 TMS (in), P3 TCK (in)
part F pins: A3 VCCIO2 (power), A14 VCCIO2 (power), C1 VCCIO1 (power), C16 VCCIO3 (power), F8 VCCIO2 (power), F9 VCCIO2 (power), H6 VCCIO1 (power), H8 VCCINT (power), H10 VCCINT (power), H11 VCCIO3 (power), J6 VCCIO1 (power), J7 VCCINT (power), J9 VCCINT (power), J11 VCCIO3 (power), L8 VCCIO4 (power), L9 VCCIO4 (power), P1 VCCIO1 (power), P16 VCCIO3 (power), T3 VCCIO4 (power), T14 VCCIO4 (power)
part G pins: A1 GNDIO (power), A16 GNDIO (power), B2 GNDIO (power), B15 GNDIO (power), G7 GNDIO (power), G8 GNDIO (power), G9 GNDIO (power), G10 GNDIO (power), H7 GNDINT (power), H9 GNDINT (power), J8 GNDINT (power), J10 GNDINT (power), K7 GNDIO (power), K8 GNDIO (power), K9 GNDIO (power), K10 GNDIO (power), R2 GNDIO (power), R15 GNDIO (power), T1 GNDIO (power), T16 GNDIO (power)
part A text: BANK 1
part B text: BANK 2
part C text: BANK 3
part D text: BANK 4

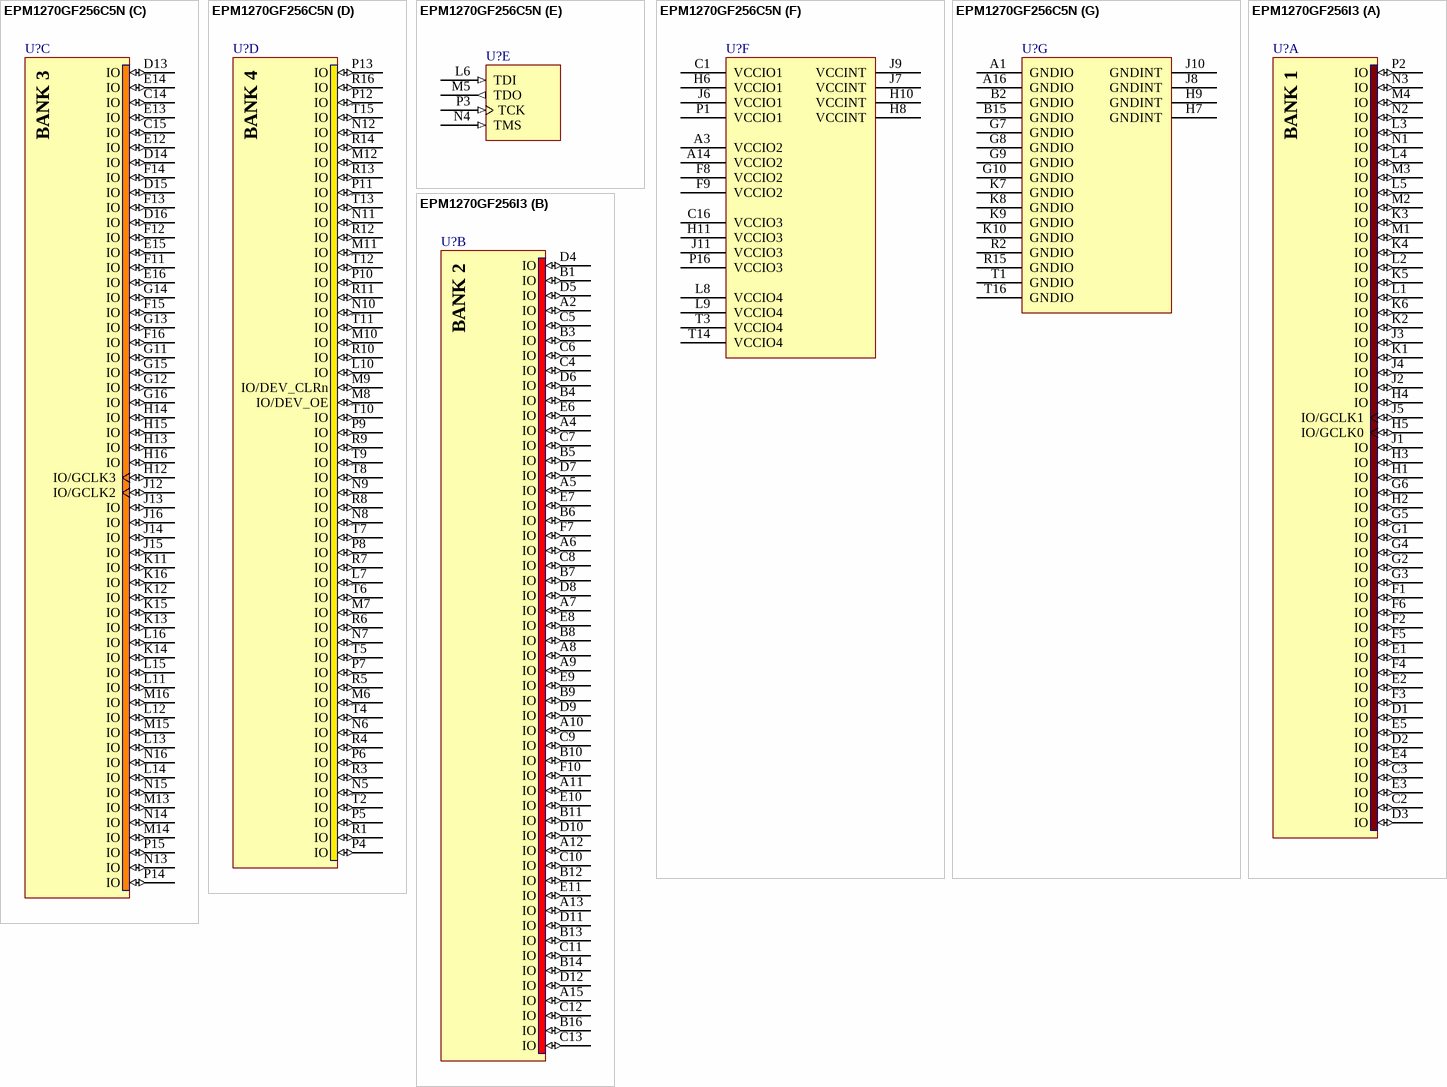
[diagram p87: symbols EPM1270GF256C5N to EPM1270GF256I3]

## EPM1270GF256C5N
designator U?
MAX II 1.8V CPLD, 212 IOs, 1,270 Logic Elements, 256-Pin FineLine BGA, Commercial Temperature, Speed Grade 5, Pb-Free; Note: Each set of VCCIO pins can be connected to 3.3V, 2.5V, 1.8V, or 1.5V.; Note: All VCCINT pins must be connected to 1.8V.; Published: 4-Mar-2005; LatestRevisionDate: 13-Apr-2006; LatestRevisionNote: IPC-7351 Footprint Added.; DatasheetVersion: ver1.8, Jul-2006; PackageVersion: ver16.0, Dec-2009; PackageReference: FBGA256; Publisher: Altium Limited; PackageDescription: 256-Ball FineLine Ball Grid Array (FBGA256) - Option 1 - Wire Bond; Supplier 1: Digi-Key; Supplier Part Number 1: 544-1384-ND; Code_JEDEC: MS-034-AAF-1; Code_IPC: BGA100P16X16-256; ComponentLink1Description: Manufacturer Link; ComponentLink1URL: http://www.altera.com/products/devices/cpld/max2/mx2-index.jsp; ComponentLink2Description: Handbook; ComponentLink2URL: http://www.altera.com/literature/hb/max2/max2_mii5v1.pdf; ComponentLink3Description: Packaging Specification; ComponentLink3URL: http://www.altera.com/literature/ds/dspkg.pdf
footprint FBGA256 (BGA, 256-Leads, Body 17x17mm, Pitch 1mm)
3D model EPM1270-FBGA256 (256-Ball FineLine Ball Grid Array (FBGA256) - Option 1 - Wire Bond)
part A pins: C2 IO (io), C3 IO (io), D1 IO (io), D2 IO (io), D3 IO (io), E1 IO (io), E2 IO (io), E3 IO (io), E4 IO (io), E5 IO (io), F1 IO (io), F2 IO (io), F3 IO (io), F4 IO (io), F5 IO (io), F6 IO (io), G1 IO (io), G2 IO (io), G3 IO (io), G4 IO (io), G5 IO (io), G6 IO (io), H1 IO (io), H2 IO (io), H3 IO (io), H4 IO (io), H5 IO/GCLK0 (io), J1 IO (io), J2 IO (io), J3 IO (io), J4 IO (io), J5 IO/GCLK1 (io), K1 IO (io), K2 IO (io), K3 IO (io), K4 IO (io), K5 IO (io), K6 IO (io), L1 IO (io), L2 IO (io), L3 IO (io), L4 IO (io), L5 IO (io), M1 IO (io), M2 IO (io), M3 IO (io), M4 IO (io), N1 IO (io), N2 IO (io), N3 IO (io), P2 IO (io)
part B pins: A2 IO (io), A4 IO (io), A5 IO (io), A6 IO (io), A7 IO (io), A8 IO (io), A9 IO (io), A10 IO (io), A11 IO (io), A12 IO (io), A13 IO (io), A15 IO (io), B1 IO (io), B3 IO (io), B4 IO (io), B5 IO (io), B6 IO (io), B7 IO (io), B8 IO (io), B9 IO (io), B10 IO (io), B11 IO (io), B12 IO (io), B13 IO (io), B14 IO (io), B16 IO (io), C4 IO (io), C5 IO (io), C6 IO (io), C7 IO (io), C8 IO (io), C9 IO (io), C10 IO (io), C11 IO (io), C12 IO (io), C13 IO (io), D4 IO (io), D5 IO (io), D6 IO (io), D7 IO (io), D8 IO (io), D9 IO (io), D10 IO (io), D11 IO (io), D12 IO (io), E6 IO (io), E7 IO (io), E8 IO (io), E9 IO (io), E10 IO (io), E11 IO (io), F7 IO (io), F10 IO (io)
part C pins: C14 IO (io), C15 IO (io), D13 IO (io), D14 IO (io), D15 IO (io), D16 IO (io), E12 IO (io), E13 IO (io), E14 IO (io), E15 IO (io), E16 IO (io), F11 IO (io), F12 IO (io), F13 IO (io), F14 IO (io), F15 IO (io), F16 IO (io), G11 IO (io), G12 IO (io), G13 IO (io), G14 IO (io), G15 IO (io), G16 IO (io), H12 IO/GCLK3 (io), H13 IO (io), H14 IO (io), H15 IO (io), H16 IO (io), J12 IO/GCLK2 (io), J13 IO (io), J14 IO (io), J15 IO (io), J16 IO (io), K11 IO (io), K12 IO (io), K13 IO (io), K14 IO (io), K15 IO (io), K16 IO (io), L11 IO (io), L12 IO (io), L13 IO (io), L14 IO (io), L15 IO (io), L16 IO (io), M13 IO (io), M14 IO (io), M15 IO (io), M16 IO (io), N13 IO (io), N14 IO (io), N15 IO (io), N16 IO (io), P14 IO (io), P15 IO (io)
part D pins: L7 IO (io), L10 IO (io), M6 IO (io), M7 IO (io), M8 IO/DEV_OE (io), M9 IO/DEV_CLRn (io), M10 IO (io), M11 IO (io), M12 IO (io), N5 IO (io), N6 IO (io), N7 IO (io), N8 IO (io), N9 IO (io), N10 IO (io), N11 IO (io), N12 IO (io), P4 IO (io), P5 IO (io), P6 IO (io), P7 IO (io), P8 IO (io), P9 IO (io), P10 IO (io), P11 IO (io), P12 IO (io), P13 IO (io), R1 IO (io), R3 IO (io), R4 IO (io), R5 IO (io), R6 IO (io), R7 IO (io), R8 IO (io), R9 IO (io), R10 IO (io), R11 IO (io), R12 IO (io), R13 IO (io), R14 IO (io), R16 IO (io), T2 IO (io), T4 IO (io), T5 IO (io), T6 IO (io), T7 IO (io), T8 IO (io), T9 IO (io), T10 IO (io), T11 IO (io), T12 IO (io), T13 IO (io), T15 IO (io)
part E pins: L6 TDI (in), M5 TDO (out), N4 TMS (in), P3 TCK (in)
part F pins: A3 VCCIO2 (power), A14 VCCIO2 (power), C1 VCCIO1 (power), C16 VCCIO3 (power), F8 VCCIO2 (power), F9 VCCIO2 (power), H6 VCCIO1 (power), H8 VCCINT (power), H10 VCCINT (power), H11 VCCIO3 (power), J6 VCCIO1 (power), J7 VCCINT (power), J9 VCCINT (power), J11 VCCIO3 (power), L8 VCCIO4 (power), L9 VCCIO4 (power), P1 VCCIO1 (power), P16 VCCIO3 (power), T3 VCCIO4 (power), T14 VCCIO4 (power)
part G pins: A1 GNDIO (power), A16 GNDIO (power), B2 GNDIO (power), B15 GNDIO (power), G7 GNDIO (power), G8 GNDIO (power), G9 GNDIO (power), G10 GNDIO (power), H7 GNDINT (power), H9 GNDINT (power), J8 GNDINT (power), J10 GNDINT (power), K7 GNDIO (power), K8 GNDIO (power), K9 GNDIO (power), K10 GNDIO (power), R2 GNDIO (power), R15 GNDIO (power), T1 GNDIO (power), T16 GNDIO (power)
part A text: BANK 1
part B text: BANK 2
part C text: BANK 3
part D text: BANK 4

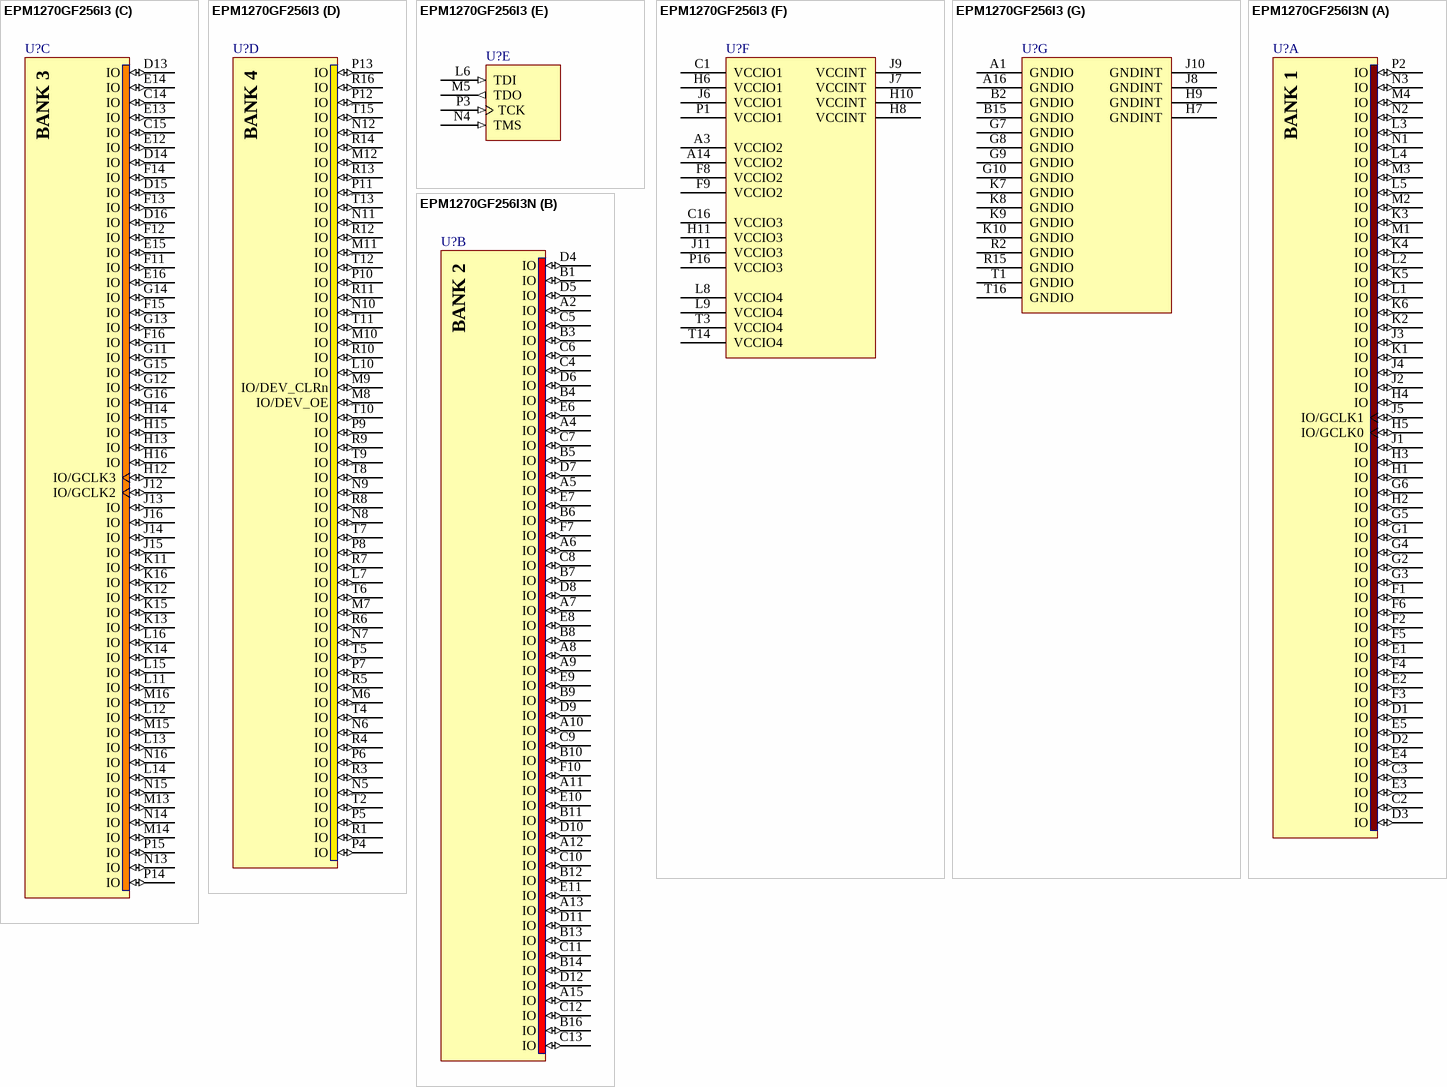
[diagram p88: symbols EPM1270GF256I3 to EPM1270GF256I3N]

## EPM1270GF256I3
designator U?
MAX II 1.8V CPLD, 212 IOs, 1,270 Logic Elements, 256-Pin FineLine BGA, Industrial Temperature, Speed Grade 3; Note: Each set of VCCIO pins can be connected to 3.3V, 2.5V, 1.8V, or 1.5V.; Note: All VCCINT pins must be connected to 1.8V.; Published: 18-Aug-2005; LatestRevisionDate: 13-Apr-2006; LatestRevisionNote: IPC-7351 Footprint Added.; DatasheetVersion: ver1.8, Jul-2006; PackageVersion: ver16.0, Dec-2009; PackageReference: FBGA256; Publisher: Altium Limited; PackageDescription: 256-Ball FineLine Ball Grid Array (FBGA256) - Option 1 - Wire Bond; Code_JEDEC: MS-034-AAF-1; Code_IPC: BGA100P16X16-256; ComponentLink1Description: Manufacturer Link; ComponentLink1URL: http://www.altera.com/products/devices/cpld/max2/mx2-index.jsp; ComponentLink2Description: Handbook; ComponentLink2URL: http://www.altera.com/literature/hb/max2/max2_mii5v1.pdf; ComponentLink3Description: Packaging Specification; ComponentLink3URL: http://www.altera.com/literature/ds/dspkg.pdf
footprint FBGA256 (BGA, 256-Leads, Body 17x17mm, Pitch 1mm)
3D model EPM1270-FBGA256 (256-Ball FineLine Ball Grid Array (FBGA256) - Option 1 - Wire Bond)
part A pins: C2 IO (io), C3 IO (io), D1 IO (io), D2 IO (io), D3 IO (io), E1 IO (io), E2 IO (io), E3 IO (io), E4 IO (io), E5 IO (io), F1 IO (io), F2 IO (io), F3 IO (io), F4 IO (io), F5 IO (io), F6 IO (io), G1 IO (io), G2 IO (io), G3 IO (io), G4 IO (io), G5 IO (io), G6 IO (io), H1 IO (io), H2 IO (io), H3 IO (io), H4 IO (io), H5 IO/GCLK0 (io), J1 IO (io), J2 IO (io), J3 IO (io), J4 IO (io), J5 IO/GCLK1 (io), K1 IO (io), K2 IO (io), K3 IO (io), K4 IO (io), K5 IO (io), K6 IO (io), L1 IO (io), L2 IO (io), L3 IO (io), L4 IO (io), L5 IO (io), M1 IO (io), M2 IO (io), M3 IO (io), M4 IO (io), N1 IO (io), N2 IO (io), N3 IO (io), P2 IO (io)
part B pins: A2 IO (io), A4 IO (io), A5 IO (io), A6 IO (io), A7 IO (io), A8 IO (io), A9 IO (io), A10 IO (io), A11 IO (io), A12 IO (io), A13 IO (io), A15 IO (io), B1 IO (io), B3 IO (io), B4 IO (io), B5 IO (io), B6 IO (io), B7 IO (io), B8 IO (io), B9 IO (io), B10 IO (io), B11 IO (io), B12 IO (io), B13 IO (io), B14 IO (io), B16 IO (io), C4 IO (io), C5 IO (io), C6 IO (io), C7 IO (io), C8 IO (io), C9 IO (io), C10 IO (io), C11 IO (io), C12 IO (io), C13 IO (io), D4 IO (io), D5 IO (io), D6 IO (io), D7 IO (io), D8 IO (io), D9 IO (io), D10 IO (io), D11 IO (io), D12 IO (io), E6 IO (io), E7 IO (io), E8 IO (io), E9 IO (io), E10 IO (io), E11 IO (io), F7 IO (io), F10 IO (io)
part C pins: C14 IO (io), C15 IO (io), D13 IO (io), D14 IO (io), D15 IO (io), D16 IO (io), E12 IO (io), E13 IO (io), E14 IO (io), E15 IO (io), E16 IO (io), F11 IO (io), F12 IO (io), F13 IO (io), F14 IO (io), F15 IO (io), F16 IO (io), G11 IO (io), G12 IO (io), G13 IO (io), G14 IO (io), G15 IO (io), G16 IO (io), H12 IO/GCLK3 (io), H13 IO (io), H14 IO (io), H15 IO (io), H16 IO (io), J12 IO/GCLK2 (io), J13 IO (io), J14 IO (io), J15 IO (io), J16 IO (io), K11 IO (io), K12 IO (io), K13 IO (io), K14 IO (io), K15 IO (io), K16 IO (io), L11 IO (io), L12 IO (io), L13 IO (io), L14 IO (io), L15 IO (io), L16 IO (io), M13 IO (io), M14 IO (io), M15 IO (io), M16 IO (io), N13 IO (io), N14 IO (io), N15 IO (io), N16 IO (io), P14 IO (io), P15 IO (io)
part D pins: L7 IO (io), L10 IO (io), M6 IO (io), M7 IO (io), M8 IO/DEV_OE (io), M9 IO/DEV_CLRn (io), M10 IO (io), M11 IO (io), M12 IO (io), N5 IO (io), N6 IO (io), N7 IO (io), N8 IO (io), N9 IO (io), N10 IO (io), N11 IO (io), N12 IO (io), P4 IO (io), P5 IO (io), P6 IO (io), P7 IO (io), P8 IO (io), P9 IO (io), P10 IO (io), P11 IO (io), P12 IO (io), P13 IO (io), R1 IO (io), R3 IO (io), R4 IO (io), R5 IO (io), R6 IO (io), R7 IO (io), R8 IO (io), R9 IO (io), R10 IO (io), R11 IO (io), R12 IO (io), R13 IO (io), R14 IO (io), R16 IO (io), T2 IO (io), T4 IO (io), T5 IO (io), T6 IO (io), T7 IO (io), T8 IO (io), T9 IO (io), T10 IO (io), T11 IO (io), T12 IO (io), T13 IO (io), T15 IO (io)
part E pins: L6 TDI (in), M5 TDO (out), N4 TMS (in), P3 TCK (in)
part F pins: A3 VCCIO2 (power), A14 VCCIO2 (power), C1 VCCIO1 (power), C16 VCCIO3 (power), F8 VCCIO2 (power), F9 VCCIO2 (power), H6 VCCIO1 (power), H8 VCCINT (power), H10 VCCINT (power), H11 VCCIO3 (power), J6 VCCIO1 (power), J7 VCCINT (power), J9 VCCINT (power), J11 VCCIO3 (power), L8 VCCIO4 (power), L9 VCCIO4 (power), P1 VCCIO1 (power), P16 VCCIO3 (power), T3 VCCIO4 (power), T14 VCCIO4 (power)
part G pins: A1 GNDIO (power), A16 GNDIO (power), B2 GNDIO (power), B15 GNDIO (power), G7 GNDIO (power), G8 GNDIO (power), G9 GNDIO (power), G10 GNDIO (power), H7 GNDINT (power), H9 GNDINT (power), J8 GNDINT (power), J10 GNDINT (power), K7 GNDIO (power), K8 GNDIO (power), K9 GNDIO (power), K10 GNDIO (power), R2 GNDIO (power), R15 GNDIO (power), T1 GNDIO (power), T16 GNDIO (power)
part A text: BANK 1
part B text: BANK 2
part C text: BANK 3
part D text: BANK 4

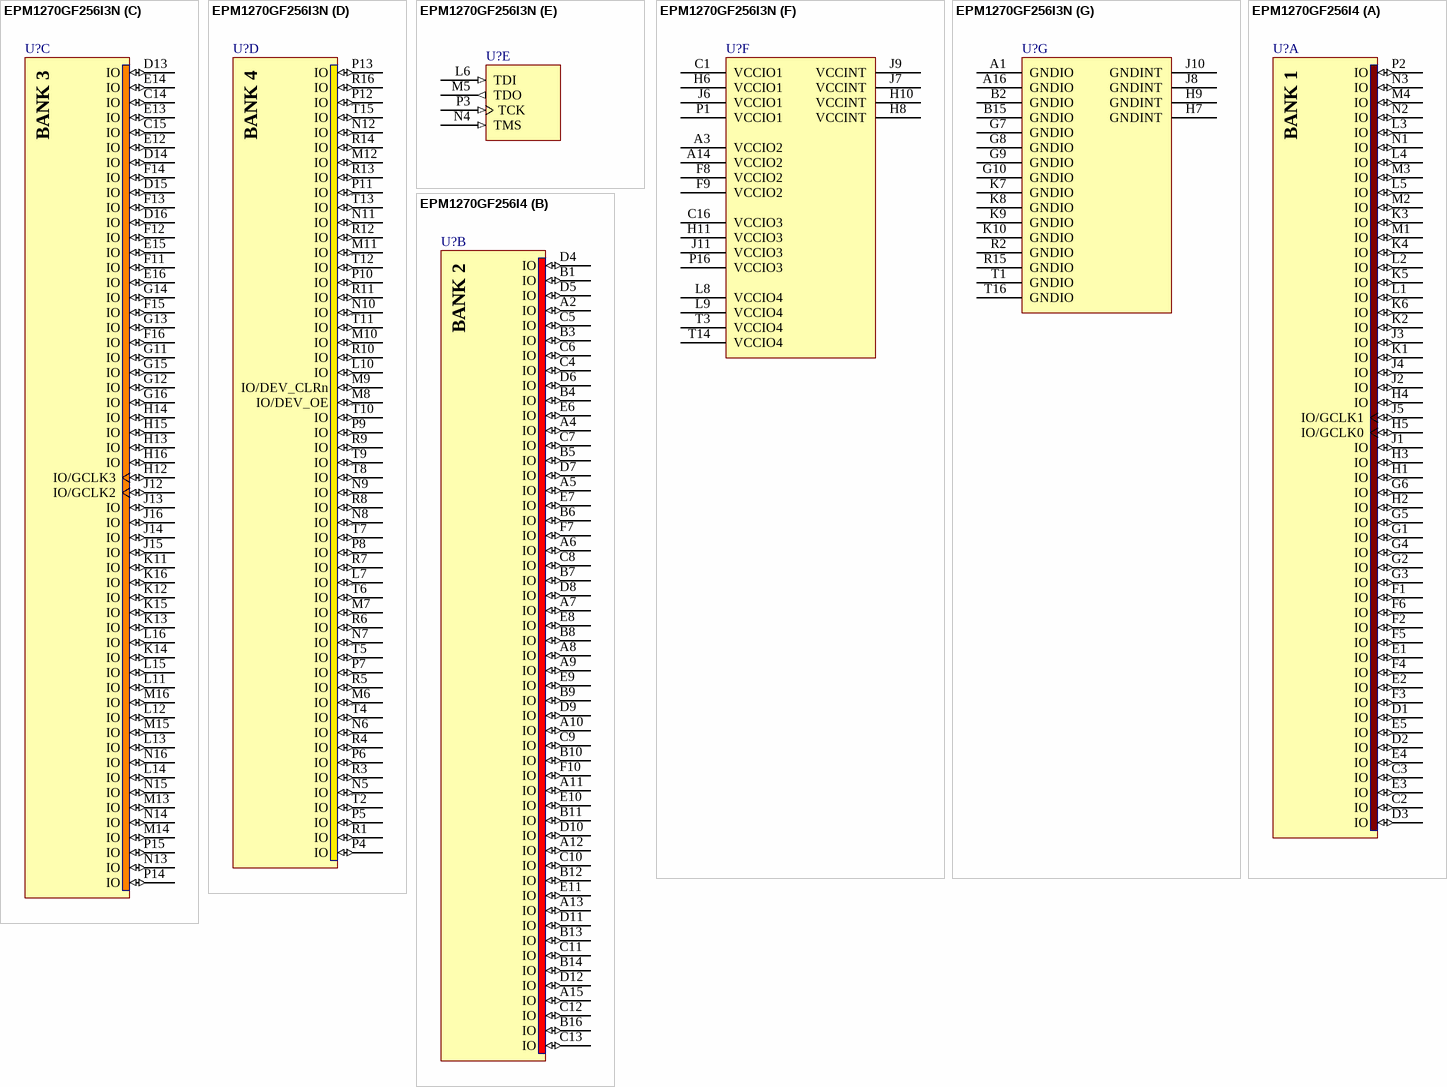
[diagram p89: symbols EPM1270GF256I3N to EPM1270GF256I4]

## EPM1270GF256I3N
designator U?
MAX II 1.8V CPLD, 212 IOs, 1,270 Logic Elements, 256-Pin FineLine BGA, Industrial Temperature, Speed Grade 3, Pb-Free; Note: Each set of VCCIO pins can be connected to 3.3V, 2.5V, 1.8V, or 1.5V.; Note: All VCCINT pins must be connected to 1.8V.; Published: 18-Aug-2005; LatestRevisionDate: 13-Apr-2006; LatestRevisionNote: IPC-7351 Footprint Added.; DatasheetVersion: ver1.8, Jul-2006; PackageVersion: ver16.0, Dec-2009; PackageReference: FBGA256; Publisher: Altium Limited; PackageDescription: 256-Ball FineLine Ball Grid Array (FBGA256) - Option 1 - Wire Bond; Code_JEDEC: MS-034-AAF-1; Code_IPC: BGA100P16X16-256; ComponentLink1Description: Manufacturer Link; ComponentLink1URL: http://www.altera.com/products/devices/cpld/max2/mx2-index.jsp; ComponentLink2Description: Handbook; ComponentLink2URL: http://www.altera.com/literature/hb/max2/max2_mii5v1.pdf; ComponentLink3Description: Packaging Specification; ComponentLink3URL: http://www.altera.com/literature/ds/dspkg.pdf
footprint FBGA256 (BGA, 256-Leads, Body 17x17mm, Pitch 1mm)
3D model EPM1270-FBGA256 (256-Ball FineLine Ball Grid Array (FBGA256) - Option 1 - Wire Bond)
part A pins: C2 IO (io), C3 IO (io), D1 IO (io), D2 IO (io), D3 IO (io), E1 IO (io), E2 IO (io), E3 IO (io), E4 IO (io), E5 IO (io), F1 IO (io), F2 IO (io), F3 IO (io), F4 IO (io), F5 IO (io), F6 IO (io), G1 IO (io), G2 IO (io), G3 IO (io), G4 IO (io), G5 IO (io), G6 IO (io), H1 IO (io), H2 IO (io), H3 IO (io), H4 IO (io), H5 IO/GCLK0 (io), J1 IO (io), J2 IO (io), J3 IO (io), J4 IO (io), J5 IO/GCLK1 (io), K1 IO (io), K2 IO (io), K3 IO (io), K4 IO (io), K5 IO (io), K6 IO (io), L1 IO (io), L2 IO (io), L3 IO (io), L4 IO (io), L5 IO (io), M1 IO (io), M2 IO (io), M3 IO (io), M4 IO (io), N1 IO (io), N2 IO (io), N3 IO (io), P2 IO (io)
part B pins: A2 IO (io), A4 IO (io), A5 IO (io), A6 IO (io), A7 IO (io), A8 IO (io), A9 IO (io), A10 IO (io), A11 IO (io), A12 IO (io), A13 IO (io), A15 IO (io), B1 IO (io), B3 IO (io), B4 IO (io), B5 IO (io), B6 IO (io), B7 IO (io), B8 IO (io), B9 IO (io), B10 IO (io), B11 IO (io), B12 IO (io), B13 IO (io), B14 IO (io), B16 IO (io), C4 IO (io), C5 IO (io), C6 IO (io), C7 IO (io), C8 IO (io), C9 IO (io), C10 IO (io), C11 IO (io), C12 IO (io), C13 IO (io), D4 IO (io), D5 IO (io), D6 IO (io), D7 IO (io), D8 IO (io), D9 IO (io), D10 IO (io), D11 IO (io), D12 IO (io), E6 IO (io), E7 IO (io), E8 IO (io), E9 IO (io), E10 IO (io), E11 IO (io), F7 IO (io), F10 IO (io)
part C pins: C14 IO (io), C15 IO (io), D13 IO (io), D14 IO (io), D15 IO (io), D16 IO (io), E12 IO (io), E13 IO (io), E14 IO (io), E15 IO (io), E16 IO (io), F11 IO (io), F12 IO (io), F13 IO (io), F14 IO (io), F15 IO (io), F16 IO (io), G11 IO (io), G12 IO (io), G13 IO (io), G14 IO (io), G15 IO (io), G16 IO (io), H12 IO/GCLK3 (io), H13 IO (io), H14 IO (io), H15 IO (io), H16 IO (io), J12 IO/GCLK2 (io), J13 IO (io), J14 IO (io), J15 IO (io), J16 IO (io), K11 IO (io), K12 IO (io), K13 IO (io), K14 IO (io), K15 IO (io), K16 IO (io), L11 IO (io), L12 IO (io), L13 IO (io), L14 IO (io), L15 IO (io), L16 IO (io), M13 IO (io), M14 IO (io), M15 IO (io), M16 IO (io), N13 IO (io), N14 IO (io), N15 IO (io), N16 IO (io), P14 IO (io), P15 IO (io)
part D pins: L7 IO (io), L10 IO (io), M6 IO (io), M7 IO (io), M8 IO/DEV_OE (io), M9 IO/DEV_CLRn (io), M10 IO (io), M11 IO (io), M12 IO (io), N5 IO (io), N6 IO (io), N7 IO (io), N8 IO (io), N9 IO (io), N10 IO (io), N11 IO (io), N12 IO (io), P4 IO (io), P5 IO (io), P6 IO (io), P7 IO (io), P8 IO (io), P9 IO (io), P10 IO (io), P11 IO (io), P12 IO (io), P13 IO (io), R1 IO (io), R3 IO (io), R4 IO (io), R5 IO (io), R6 IO (io), R7 IO (io), R8 IO (io), R9 IO (io), R10 IO (io), R11 IO (io), R12 IO (io), R13 IO (io), R14 IO (io), R16 IO (io), T2 IO (io), T4 IO (io), T5 IO (io), T6 IO (io), T7 IO (io), T8 IO (io), T9 IO (io), T10 IO (io), T11 IO (io), T12 IO (io), T13 IO (io), T15 IO (io)
part E pins: L6 TDI (in), M5 TDO (out), N4 TMS (in), P3 TCK (in)
part F pins: A3 VCCIO2 (power), A14 VCCIO2 (power), C1 VCCIO1 (power), C16 VCCIO3 (power), F8 VCCIO2 (power), F9 VCCIO2 (power), H6 VCCIO1 (power), H8 VCCINT (power), H10 VCCINT (power), H11 VCCIO3 (power), J6 VCCIO1 (power), J7 VCCINT (power), J9 VCCINT (power), J11 VCCIO3 (power), L8 VCCIO4 (power), L9 VCCIO4 (power), P1 VCCIO1 (power), P16 VCCIO3 (power), T3 VCCIO4 (power), T14 VCCIO4 (power)
part G pins: A1 GNDIO (power), A16 GNDIO (power), B2 GNDIO (power), B15 GNDIO (power), G7 GNDIO (power), G8 GNDIO (power), G9 GNDIO (power), G10 GNDIO (power), H7 GNDINT (power), H9 GNDINT (power), J8 GNDINT (power), J10 GNDINT (power), K7 GNDIO (power), K8 GNDIO (power), K9 GNDIO (power), K10 GNDIO (power), R2 GNDIO (power), R15 GNDIO (power), T1 GNDIO (power), T16 GNDIO (power)
part A text: BANK 1
part B text: BANK 2
part C text: BANK 3
part D text: BANK 4

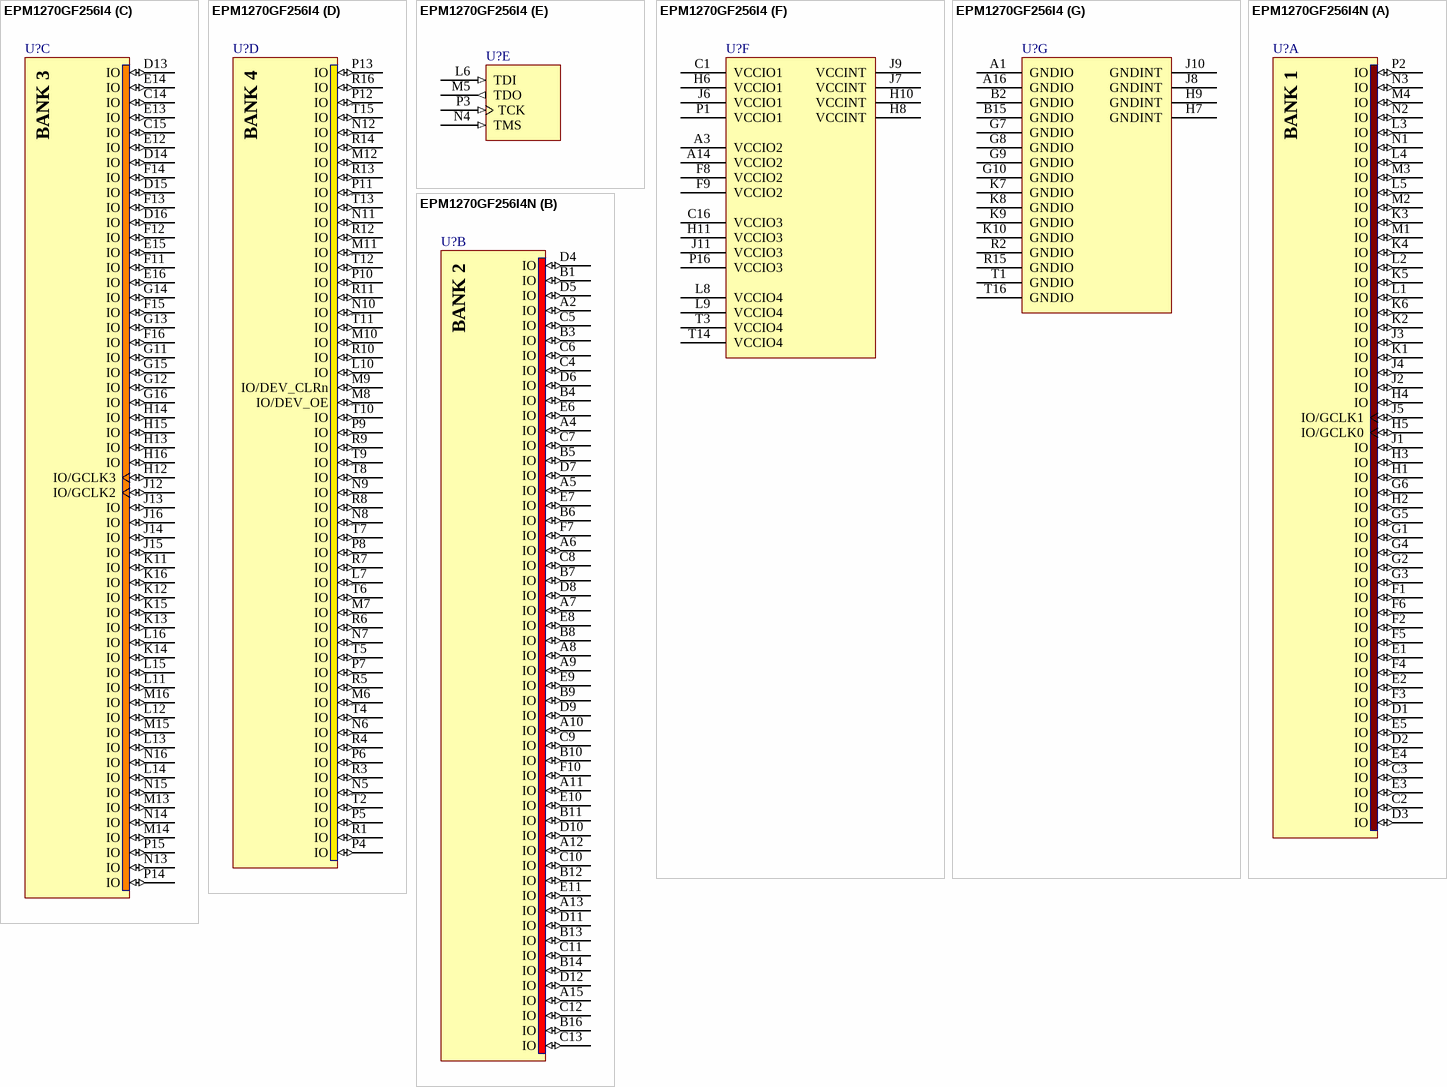
[diagram p90: symbols EPM1270GF256I4 to EPM1270GF256I4N]

## EPM1270GF256I4
designator U?
MAX II 1.8V CPLD, 212 IOs, 1,270 Logic Elements, 256-Pin FineLine BGA, Industrial Temperature, Speed Grade 4; Note: Each set of VCCIO pins can be connected to 3.3V, 2.5V, 1.8V, or 1.5V.; Note: All VCCINT pins must be connected to 1.8V.; Published: 18-Aug-2005; LatestRevisionDate: 13-Apr-2006; LatestRevisionNote: IPC-7351 Footprint Added.; DatasheetVersion: ver1.8, Jul-2006; PackageVersion: ver16.0, Dec-2009; PackageReference: FBGA256; Publisher: Altium Limited; PackageDescription: 256-Ball FineLine Ball Grid Array (FBGA256) - Option 1 - Wire Bond; Code_JEDEC: MS-034-AAF-1; Code_IPC: BGA100P16X16-256; ComponentLink1Description: Manufacturer Link; ComponentLink1URL: http://www.altera.com/products/devices/cpld/max2/mx2-index.jsp; ComponentLink2Description: Handbook; ComponentLink2URL: http://www.altera.com/literature/hb/max2/max2_mii5v1.pdf; ComponentLink3Description: Packaging Specification; ComponentLink3URL: http://www.altera.com/literature/ds/dspkg.pdf
footprint FBGA256 (BGA, 256-Leads, Body 17x17mm, Pitch 1mm)
3D model EPM1270-FBGA256 (256-Ball FineLine Ball Grid Array (FBGA256) - Option 1 - Wire Bond)
part A pins: C2 IO (io), C3 IO (io), D1 IO (io), D2 IO (io), D3 IO (io), E1 IO (io), E2 IO (io), E3 IO (io), E4 IO (io), E5 IO (io), F1 IO (io), F2 IO (io), F3 IO (io), F4 IO (io), F5 IO (io), F6 IO (io), G1 IO (io), G2 IO (io), G3 IO (io), G4 IO (io), G5 IO (io), G6 IO (io), H1 IO (io), H2 IO (io), H3 IO (io), H4 IO (io), H5 IO/GCLK0 (io), J1 IO (io), J2 IO (io), J3 IO (io), J4 IO (io), J5 IO/GCLK1 (io), K1 IO (io), K2 IO (io), K3 IO (io), K4 IO (io), K5 IO (io), K6 IO (io), L1 IO (io), L2 IO (io), L3 IO (io), L4 IO (io), L5 IO (io), M1 IO (io), M2 IO (io), M3 IO (io), M4 IO (io), N1 IO (io), N2 IO (io), N3 IO (io), P2 IO (io)
part B pins: A2 IO (io), A4 IO (io), A5 IO (io), A6 IO (io), A7 IO (io), A8 IO (io), A9 IO (io), A10 IO (io), A11 IO (io), A12 IO (io), A13 IO (io), A15 IO (io), B1 IO (io), B3 IO (io), B4 IO (io), B5 IO (io), B6 IO (io), B7 IO (io), B8 IO (io), B9 IO (io), B10 IO (io), B11 IO (io), B12 IO (io), B13 IO (io), B14 IO (io), B16 IO (io), C4 IO (io), C5 IO (io), C6 IO (io), C7 IO (io), C8 IO (io), C9 IO (io), C10 IO (io), C11 IO (io), C12 IO (io), C13 IO (io), D4 IO (io), D5 IO (io), D6 IO (io), D7 IO (io), D8 IO (io), D9 IO (io), D10 IO (io), D11 IO (io), D12 IO (io), E6 IO (io), E7 IO (io), E8 IO (io), E9 IO (io), E10 IO (io), E11 IO (io), F7 IO (io), F10 IO (io)
part C pins: C14 IO (io), C15 IO (io), D13 IO (io), D14 IO (io), D15 IO (io), D16 IO (io), E12 IO (io), E13 IO (io), E14 IO (io), E15 IO (io), E16 IO (io), F11 IO (io), F12 IO (io), F13 IO (io), F14 IO (io), F15 IO (io), F16 IO (io), G11 IO (io), G12 IO (io), G13 IO (io), G14 IO (io), G15 IO (io), G16 IO (io), H12 IO/GCLK3 (io), H13 IO (io), H14 IO (io), H15 IO (io), H16 IO (io), J12 IO/GCLK2 (io), J13 IO (io), J14 IO (io), J15 IO (io), J16 IO (io), K11 IO (io), K12 IO (io), K13 IO (io), K14 IO (io), K15 IO (io), K16 IO (io), L11 IO (io), L12 IO (io), L13 IO (io), L14 IO (io), L15 IO (io), L16 IO (io), M13 IO (io), M14 IO (io), M15 IO (io), M16 IO (io), N13 IO (io), N14 IO (io), N15 IO (io), N16 IO (io), P14 IO (io), P15 IO (io)
part D pins: L7 IO (io), L10 IO (io), M6 IO (io), M7 IO (io), M8 IO/DEV_OE (io), M9 IO/DEV_CLRn (io), M10 IO (io), M11 IO (io), M12 IO (io), N5 IO (io), N6 IO (io), N7 IO (io), N8 IO (io), N9 IO (io), N10 IO (io), N11 IO (io), N12 IO (io), P4 IO (io), P5 IO (io), P6 IO (io), P7 IO (io), P8 IO (io), P9 IO (io), P10 IO (io), P11 IO (io), P12 IO (io), P13 IO (io), R1 IO (io), R3 IO (io), R4 IO (io), R5 IO (io), R6 IO (io), R7 IO (io), R8 IO (io), R9 IO (io), R10 IO (io), R11 IO (io), R12 IO (io), R13 IO (io), R14 IO (io), R16 IO (io), T2 IO (io), T4 IO (io), T5 IO (io), T6 IO (io), T7 IO (io), T8 IO (io), T9 IO (io), T10 IO (io), T11 IO (io), T12 IO (io), T13 IO (io), T15 IO (io)
part E pins: L6 TDI (in), M5 TDO (out), N4 TMS (in), P3 TCK (in)
part F pins: A3 VCCIO2 (power), A14 VCCIO2 (power), C1 VCCIO1 (power), C16 VCCIO3 (power), F8 VCCIO2 (power), F9 VCCIO2 (power), H6 VCCIO1 (power), H8 VCCINT (power), H10 VCCINT (power), H11 VCCIO3 (power), J6 VCCIO1 (power), J7 VCCINT (power), J9 VCCINT (power), J11 VCCIO3 (power), L8 VCCIO4 (power), L9 VCCIO4 (power), P1 VCCIO1 (power), P16 VCCIO3 (power), T3 VCCIO4 (power), T14 VCCIO4 (power)
part G pins: A1 GNDIO (power), A16 GNDIO (power), B2 GNDIO (power), B15 GNDIO (power), G7 GNDIO (power), G8 GNDIO (power), G9 GNDIO (power), G10 GNDIO (power), H7 GNDINT (power), H9 GNDINT (power), J8 GNDINT (power), J10 GNDINT (power), K7 GNDIO (power), K8 GNDIO (power), K9 GNDIO (power), K10 GNDIO (power), R2 GNDIO (power), R15 GNDIO (power), T1 GNDIO (power), T16 GNDIO (power)
part A text: BANK 1
part B text: BANK 2
part C text: BANK 3
part D text: BANK 4

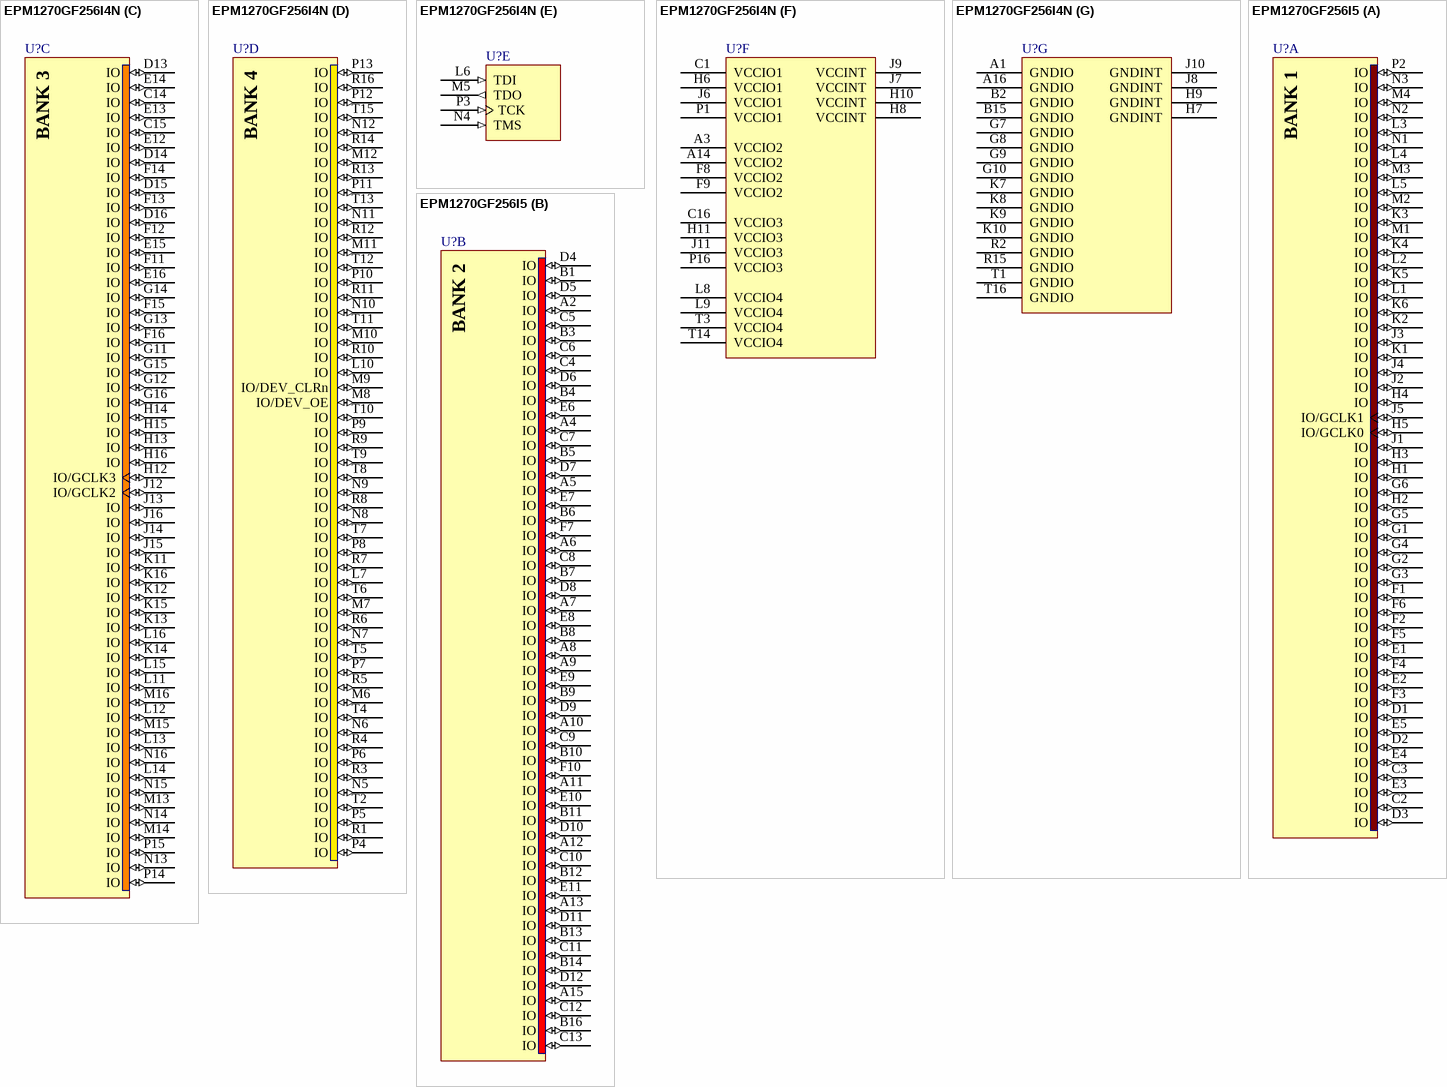
[diagram p91: symbols EPM1270GF256I4N to EPM1270GF256I5]

## EPM1270GF256I4N
designator U?
MAX II 1.8V CPLD, 212 IOs, 1,270 Logic Elements, 256-Pin FineLine BGA, Industrial Temperature, Speed Grade 4, Pb-Free; Note: Each set of VCCIO pins can be connected to 3.3V, 2.5V, 1.8V, or 1.5V.; Note: All VCCINT pins must be connected to 1.8V.; Published: 18-Aug-2005; LatestRevisionDate: 13-Apr-2006; LatestRevisionNote: IPC-7351 Footprint Added.; DatasheetVersion: ver1.8, Jul-2006; PackageVersion: ver16.0, Dec-2009; PackageReference: FBGA256; Publisher: Altium Limited; PackageDescription: 256-Ball FineLine Ball Grid Array (FBGA256) - Option 1 - Wire Bond; Code_JEDEC: MS-034-AAF-1; Code_IPC: BGA100P16X16-256; ComponentLink1Description: Manufacturer Link; ComponentLink1URL: http://www.altera.com/products/devices/cpld/max2/mx2-index.jsp; ComponentLink2Description: Handbook; ComponentLink2URL: http://www.altera.com/literature/hb/max2/max2_mii5v1.pdf; ComponentLink3Description: Packaging Specification; ComponentLink3URL: http://www.altera.com/literature/ds/dspkg.pdf
footprint FBGA256 (BGA, 256-Leads, Body 17x17mm, Pitch 1mm)
3D model EPM1270-FBGA256 (256-Ball FineLine Ball Grid Array (FBGA256) - Option 1 - Wire Bond)
part A pins: C2 IO (io), C3 IO (io), D1 IO (io), D2 IO (io), D3 IO (io), E1 IO (io), E2 IO (io), E3 IO (io), E4 IO (io), E5 IO (io), F1 IO (io), F2 IO (io), F3 IO (io), F4 IO (io), F5 IO (io), F6 IO (io), G1 IO (io), G2 IO (io), G3 IO (io), G4 IO (io), G5 IO (io), G6 IO (io), H1 IO (io), H2 IO (io), H3 IO (io), H4 IO (io), H5 IO/GCLK0 (io), J1 IO (io), J2 IO (io), J3 IO (io), J4 IO (io), J5 IO/GCLK1 (io), K1 IO (io), K2 IO (io), K3 IO (io), K4 IO (io), K5 IO (io), K6 IO (io), L1 IO (io), L2 IO (io), L3 IO (io), L4 IO (io), L5 IO (io), M1 IO (io), M2 IO (io), M3 IO (io), M4 IO (io), N1 IO (io), N2 IO (io), N3 IO (io), P2 IO (io)
part B pins: A2 IO (io), A4 IO (io), A5 IO (io), A6 IO (io), A7 IO (io), A8 IO (io), A9 IO (io), A10 IO (io), A11 IO (io), A12 IO (io), A13 IO (io), A15 IO (io), B1 IO (io), B3 IO (io), B4 IO (io), B5 IO (io), B6 IO (io), B7 IO (io), B8 IO (io), B9 IO (io), B10 IO (io), B11 IO (io), B12 IO (io), B13 IO (io), B14 IO (io), B16 IO (io), C4 IO (io), C5 IO (io), C6 IO (io), C7 IO (io), C8 IO (io), C9 IO (io), C10 IO (io), C11 IO (io), C12 IO (io), C13 IO (io), D4 IO (io), D5 IO (io), D6 IO (io), D7 IO (io), D8 IO (io), D9 IO (io), D10 IO (io), D11 IO (io), D12 IO (io), E6 IO (io), E7 IO (io), E8 IO (io), E9 IO (io), E10 IO (io), E11 IO (io), F7 IO (io), F10 IO (io)
part C pins: C14 IO (io), C15 IO (io), D13 IO (io), D14 IO (io), D15 IO (io), D16 IO (io), E12 IO (io), E13 IO (io), E14 IO (io), E15 IO (io), E16 IO (io), F11 IO (io), F12 IO (io), F13 IO (io), F14 IO (io), F15 IO (io), F16 IO (io), G11 IO (io), G12 IO (io), G13 IO (io), G14 IO (io), G15 IO (io), G16 IO (io), H12 IO/GCLK3 (io), H13 IO (io), H14 IO (io), H15 IO (io), H16 IO (io), J12 IO/GCLK2 (io), J13 IO (io), J14 IO (io), J15 IO (io), J16 IO (io), K11 IO (io), K12 IO (io), K13 IO (io), K14 IO (io), K15 IO (io), K16 IO (io), L11 IO (io), L12 IO (io), L13 IO (io), L14 IO (io), L15 IO (io), L16 IO (io), M13 IO (io), M14 IO (io), M15 IO (io), M16 IO (io), N13 IO (io), N14 IO (io), N15 IO (io), N16 IO (io), P14 IO (io), P15 IO (io)
part D pins: L7 IO (io), L10 IO (io), M6 IO (io), M7 IO (io), M8 IO/DEV_OE (io), M9 IO/DEV_CLRn (io), M10 IO (io), M11 IO (io), M12 IO (io), N5 IO (io), N6 IO (io), N7 IO (io), N8 IO (io), N9 IO (io), N10 IO (io), N11 IO (io), N12 IO (io), P4 IO (io), P5 IO (io), P6 IO (io), P7 IO (io), P8 IO (io), P9 IO (io), P10 IO (io), P11 IO (io), P12 IO (io), P13 IO (io), R1 IO (io), R3 IO (io), R4 IO (io), R5 IO (io), R6 IO (io), R7 IO (io), R8 IO (io), R9 IO (io), R10 IO (io), R11 IO (io), R12 IO (io), R13 IO (io), R14 IO (io), R16 IO (io), T2 IO (io), T4 IO (io), T5 IO (io), T6 IO (io), T7 IO (io), T8 IO (io), T9 IO (io), T10 IO (io), T11 IO (io), T12 IO (io), T13 IO (io), T15 IO (io)
part E pins: L6 TDI (in), M5 TDO (out), N4 TMS (in), P3 TCK (in)
part F pins: A3 VCCIO2 (power), A14 VCCIO2 (power), C1 VCCIO1 (power), C16 VCCIO3 (power), F8 VCCIO2 (power), F9 VCCIO2 (power), H6 VCCIO1 (power), H8 VCCINT (power), H10 VCCINT (power), H11 VCCIO3 (power), J6 VCCIO1 (power), J7 VCCINT (power), J9 VCCINT (power), J11 VCCIO3 (power), L8 VCCIO4 (power), L9 VCCIO4 (power), P1 VCCIO1 (power), P16 VCCIO3 (power), T3 VCCIO4 (power), T14 VCCIO4 (power)
part G pins: A1 GNDIO (power), A16 GNDIO (power), B2 GNDIO (power), B15 GNDIO (power), G7 GNDIO (power), G8 GNDIO (power), G9 GNDIO (power), G10 GNDIO (power), H7 GNDINT (power), H9 GNDINT (power), J8 GNDINT (power), J10 GNDINT (power), K7 GNDIO (power), K8 GNDIO (power), K9 GNDIO (power), K10 GNDIO (power), R2 GNDIO (power), R15 GNDIO (power), T1 GNDIO (power), T16 GNDIO (power)
part A text: BANK 1
part B text: BANK 2
part C text: BANK 3
part D text: BANK 4

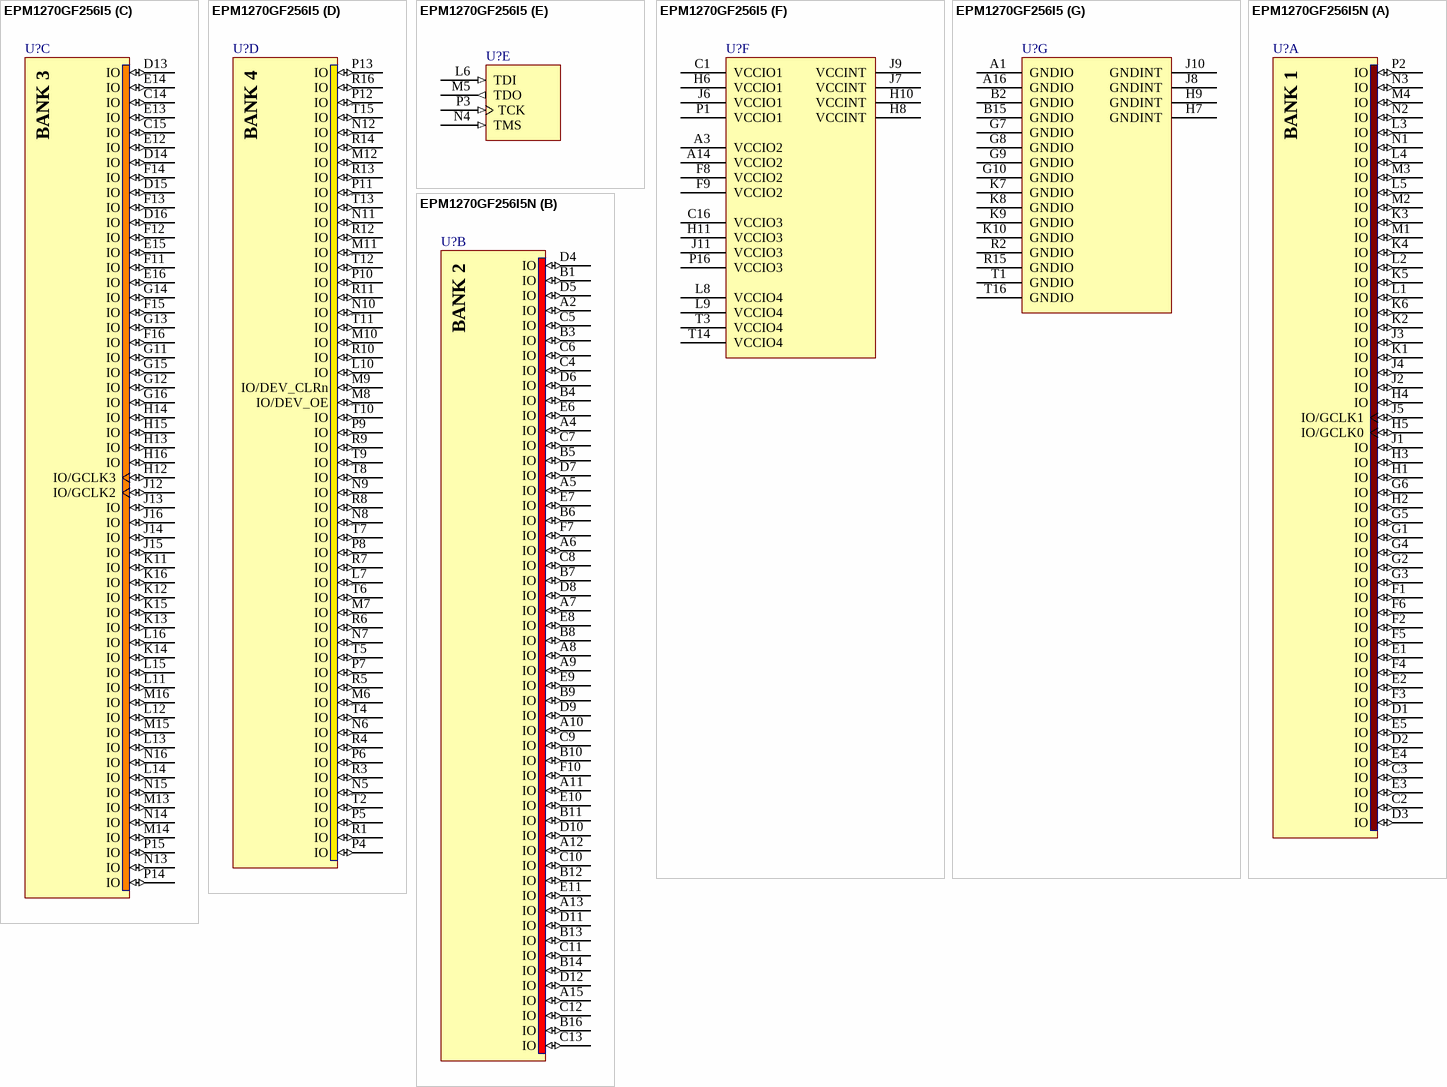
[diagram p92: symbols EPM1270GF256I5 to EPM1270GF256I5N]